# Altium integrated library National Semiconductor Interface.IntLib: 1433 symbols (part 3 of 51)
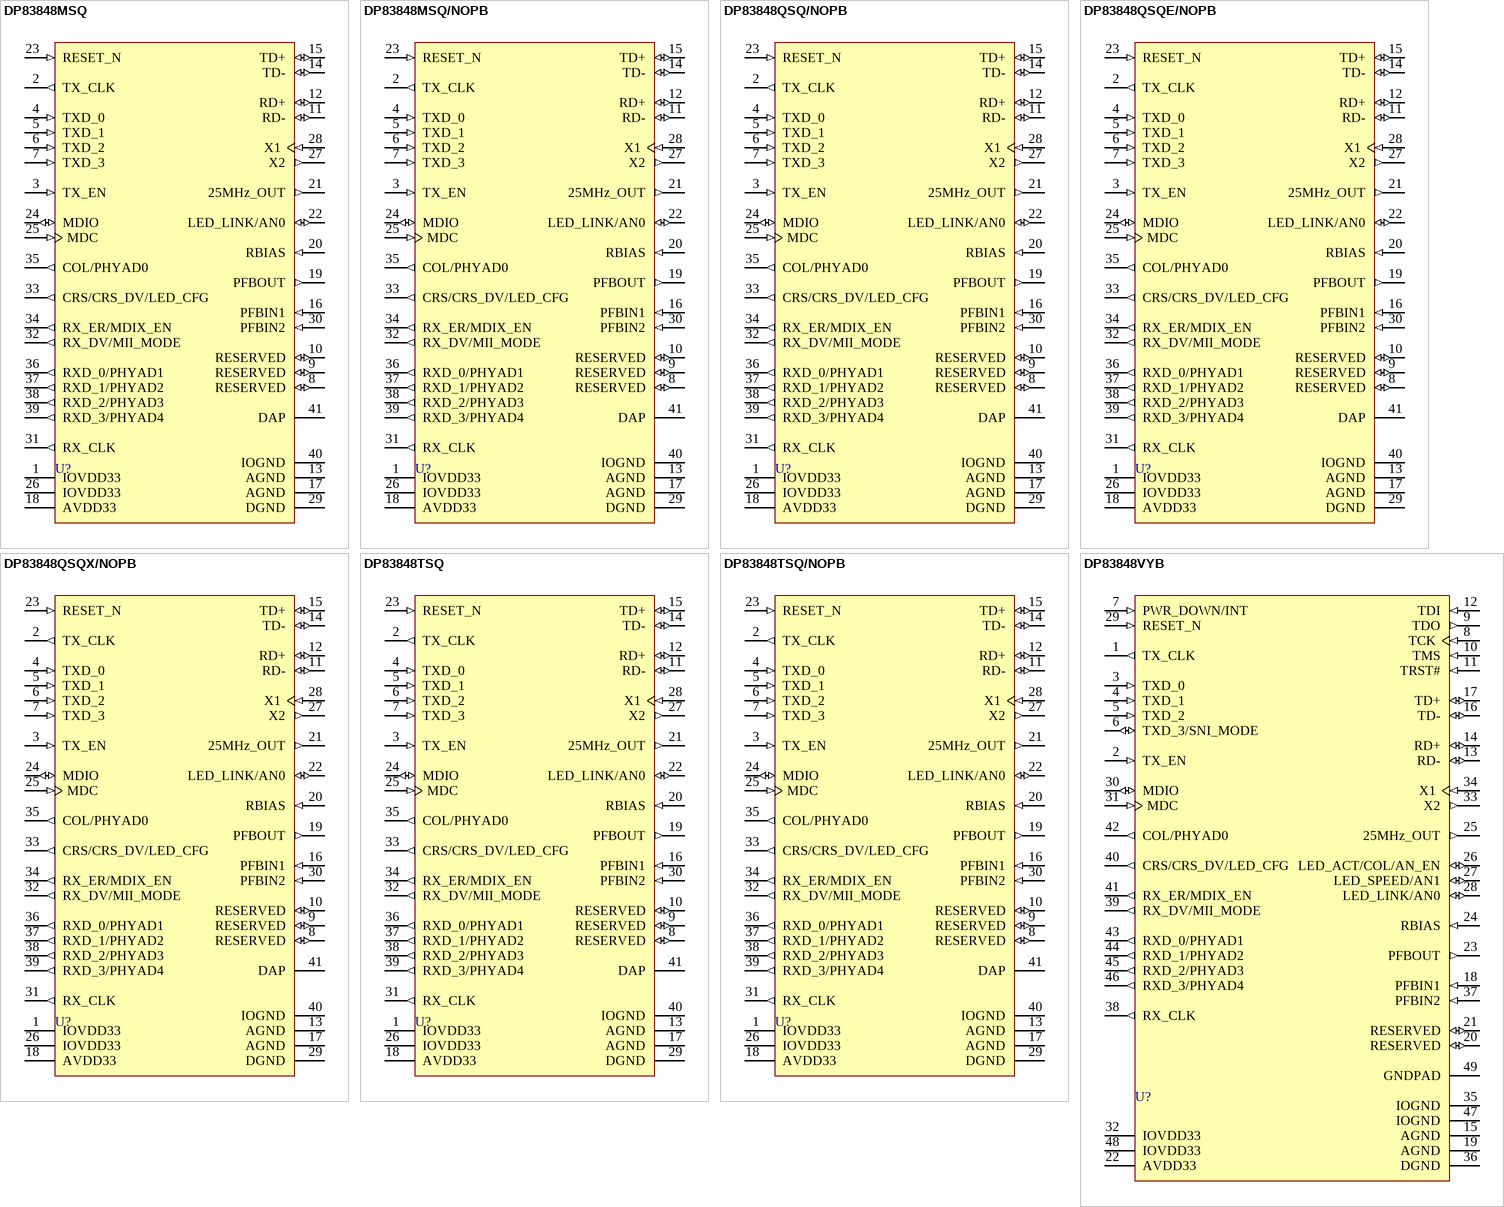
[diagram p126: symbols DP83848MSQ to DP83848VYB]

## DP83848QSQX/NOPB
designator U?
PHYTER Extended Temperature Single Port 10/100 Mb/s Ethernet Physical Layer Transceiver, -40°C to 105°C, 40-pin LLP; PartNumber: DP83848QSQX/NOPB; Manufacturer: National Semiconductor; PowerWise: N; CompType: Interface IC; High-Reliability: Y; DatasheetVersion: Sep-2011; PackageVersion: revB, Mar-2004; PackageReference: SQA40A; PackageDescription: LLP, Plastic, Quad, 6 x 6 x 0.8mm Body, 40 Lead, 0.5mm Pitch, No Pullback; RoHS: Y; PinCount: 40; ComponentLink1Description: Manufacturer URL; ComponentLink1URL: http://www.national.com/; ComponentLink2Description: DP83848Q Datasheet; ComponentLink2URL: http://www.national.com/ds/DP/DP83848Q.pdf; ComponentLink3Description: DP83848Q Web Page; ComponentLink3URL: http://www.national.com/pf/DP/DP83848Q.html; ComponentLink4Description: SQA40A Package Page; ComponentLink4URL: http://www.national.com/packaging/folders/sqa40a.html
footprint SQA40A (QFN, 40-Leads, Body 6x6mm, Pitch 0.5mm, Thermal Pad 4.7x4.7mm, NSC Recommended)
pins: 1 IOVDD33 (power), 2 TX_CLK (out), 3 TX_EN (in), 4 TXD_0 (in), 5 TXD_1 (in), 6 TXD_2 (in), 7 TXD_3 (in), 8 RESERVED (io), 9 RESERVED (io), 10 RESERVED (io), 11 RD- (io), 12 RD+ (io), 13 AGND (power), 14 TD- (io), 15 TD+ (io), 16 PFBIN1 (in), 17 AGND (power), 18 AVDD33 (power), 19 PFBOUT (out), 20 RBIAS (in), 21 25MHz_OUT (out), 22 LED_LINK/AN0 (io), 23 RESET_N (in), 24 MDIO (io), 25 MDC (in), 26 IOVDD33 (power), 27 X2 (out), 28 X1 (in), 29 DGND (power), 30 PFBIN2 (in), 31 RX_CLK (out), 32 RX_DV/MII_MODE (out), 33 CRS/CRS_DV/LED_CFG (out), 34 RX_ER/MDIX_EN (out), 35 COL/PHYAD0 (out), 36 RXD_0/PHYAD1 (out), 37 RXD_1/PHYAD2 (out), 38 RXD_2/PHYAD3 (out), 39 RXD_3/PHYAD4 (out), 40 IOGND (power), 41 DAP (power)

## DP83848TSQ
designator U?
PHYTER® Mini - Industrial Temperature Single 10/100 Ethernet Transceiver, 40-pin LLP; PartNumber: DP83848TSQ; Manufacturer: National Semiconductor; PackageTopMarking: NS*UZXYTT*83848TSQ; PowerWise: N; CompType: Interface IC; High-Reliability: Y; DatasheetVersion: May-2008; PackageVersion: revA, Mar-2004; PackageReference: SQA40B; PackageDescription: LLP, Quad, 6 x 6 x 0.8mm, 40 Lead, Small DAP, 0.5mm Pitch, No Pullback; RoHS: Y; PinCount: 40; ComponentLink1Description: Manufacturer URL; ComponentLink1URL: http://www.national.com/; ComponentLink2Description: DP83848T Datasheet; ComponentLink2URL: http://www.national.com/ds/DP/DP83848T.pdf; ComponentLink3Description: DP83848T Web Page; ComponentLink3URL: http://www.national.com/pf/DP/DP83848T.html; ComponentLink4Description: SQA40B Package Page; ComponentLink4URL: http://www.national.com/packaging/folders/sqa40b.html
footprint SQA40B (QFN, 40-Leads, Body 6x6mm, Pitch 0.5mm, Thermal Pad 4.4x4.4mm, NSC Recommended)
pins: 1 IOVDD33 (power), 2 TX_CLK (out), 3 TX_EN (in), 4 TXD_0 (in), 5 TXD_1 (in), 6 TXD_2 (in), 7 TXD_3 (in), 8 RESERVED (io), 9 RESERVED (io), 10 RESERVED (io), 11 RD- (io), 12 RD+ (io), 13 AGND (power), 14 TD- (io), 15 TD+ (io), 16 PFBIN1 (in), 17 AGND (power), 18 AVDD33 (power), 19 PFBOUT (out), 20 RBIAS (in), 21 25MHz_OUT (out), 22 LED_LINK/AN0 (io), 23 RESET_N (in), 24 MDIO (io), 25 MDC (in), 26 IOVDD33 (power), 27 X2 (out), 28 X1 (in), 29 DGND (power), 30 PFBIN2 (in), 31 RX_CLK (out), 32 RX_DV/MII_MODE (out), 33 CRS/CRS_DV/LED_CFG (out), 34 RX_ER/MDIX_EN (out), 35 COL/PHYAD0 (out), 36 RXD_0/PHYAD1 (out), 37 RXD_1/PHYAD2 (out), 38 RXD_2/PHYAD3 (out), 39 RXD_3/PHYAD4 (out), 40 IOGND (power), 41 DAP

## DP83848TSQ/NOPB
designator U?
PHYTER® Mini - Industrial Temperature Single 10/100 Ethernet Transceiver, 40-pin LLP, Pb-Free, 250 Reel; PartNumber: DP83848TSQ/NOPB; Manufacturer: National Semiconductor; PackageTopMarking: NS*UZXYTTE#*83848TSQ; PowerWise: N; CompType: Interface IC; High-Reliability: Y; DatasheetVersion: May-2008; PackageVersion: revA, Mar-2004; PackageReference: SQA40B; PackageDescription: LLP, Quad, 6 x 6 x 0.8mm, 40 Lead, Small DAP, 0.5mm Pitch, No Pullback; RoHS: Y; PinCount: 40; ComponentLink1Description: Manufacturer URL; ComponentLink1URL: http://www.national.com/; ComponentLink2Description: DP83848T Datasheet; ComponentLink2URL: http://www.national.com/ds/DP/DP83848T.pdf; ComponentLink3Description: DP83848T Web Page; ComponentLink3URL: http://www.national.com/pf/DP/DP83848T.html; ComponentLink4Description: SQA40A Package Page; ComponentLink4URL: http://www.national.com/packaging/folders/sqa40a.html
footprint SQA40B (QFN, 40-Leads, Body 6x6mm, Pitch 0.5mm, Thermal Pad 4.4x4.4mm, NSC Recommended)
pins: 1 IOVDD33 (power), 2 TX_CLK (out), 3 TX_EN (in), 4 TXD_0 (in), 5 TXD_1 (in), 6 TXD_2 (in), 7 TXD_3 (in), 8 RESERVED (io), 9 RESERVED (io), 10 RESERVED (io), 11 RD- (io), 12 RD+ (io), 13 AGND (power), 14 TD- (io), 15 TD+ (io), 16 PFBIN1 (in), 17 AGND (power), 18 AVDD33 (power), 19 PFBOUT (out), 20 RBIAS (in), 21 25MHz_OUT (out), 22 LED_LINK/AN0 (io), 23 RESET_N (in), 24 MDIO (io), 25 MDC (in), 26 IOVDD33 (power), 27 X2 (out), 28 X1 (in), 29 DGND (power), 30 PFBIN2 (in), 31 RX_CLK (out), 32 RX_DV/MII_MODE (out), 33 CRS/CRS_DV/LED_CFG (out), 34 RX_ER/MDIX_EN (out), 35 COL/PHYAD0 (out), 36 RXD_0/PHYAD1 (out), 37 RXD_1/PHYAD2 (out), 38 RXD_2/PHYAD3 (out), 39 RXD_3/PHYAD4 (out), 40 IOGND (power), 41 DAP

## DP83848VYB
designator U?
PHYTER® Extended Temperature Single Port 10/100 Mb/s Ethernet Physical Layer Transceiver, 48-pin LQFP-EP; PartNumber: DP83848VYB; Manufacturer: National Semiconductor; PackageTopMarking: NSUZXYTT*DP83848*VYB; PowerWise: N; CompType: Interface IC; High-Reliability: Y; DatasheetVersion: May-2008; PackageVersion: revA, May-2005; PackageReference: VXH48A; PackageDescription: LQFP, 7 x 7 x 1.4mm, 48 Lead, 0.5mm Pitch, Exposed Pad, 2.2 x 2.2mm; RoHS: Y; PinCount: 48; Code_JEDEC: MS-026-ABC; ComponentLink1Description: Manufacturer URL; ComponentLink1URL: http://www.national.com/; ComponentLink2Description: DP83848VYB Datasheet; ComponentLink2URL: http://www.national.com/ds/DP/DP83848VYB.pdf; ComponentLink3Description: DP83848VYB Web Page; ComponentLink3URL: http://www.national.com/pf/DP/DP83848VYB.html; ComponentLink4Description: VXH48A Package Page; ComponentLink4URL: http://www.national.com/packaging/folders/vxh48a.html
footprint VXH48A_N (Thin QFP, 48-Leads, Body 7x7mm, Pitch 0.5mm, Exposed Pad, IPC Medium Density)
footprint VXH48A_L (Thin QFP, 48-Leads, Body 7x7mm, Pitch 0.5mm, Exposed Pad, IPC High Density)
footprint VXH48A_M (Thin QFP, 48-Leads, Body 7x7mm, Pitch 0.5mm, Exposed Pad, IPC Low Density)
pins: 1 TX_CLK (out), 2 TX_EN (in), 3 TXD_0 (in), 4 TXD_1 (in), 5 TXD_2 (in), 6 TXD_3/SNI_MODE (io), 7 PWR_DOWN/INT (in), 8 TCK (in), 9 TDO (out), 10 TMS (in), 11 TRST# (in), 12 TDI (in), 13 RD- (io), 14 RD+ (io), 15 AGND (power), 16 TD- (io), 17 TD+ (io), 18 PFBIN1 (in), 19 AGND (power), 20 RESERVED (io), 21 RESERVED (io), 22 AVDD33 (power), 23 PFBOUT (out), 24 RBIAS (in), 25 25MHz_OUT (out), 26 LED_ACT/COL/AN_EN (io), 27 LED_SPEED/AN1 (io), 28 LED_LINK/AN0 (io), 29 RESET_N (in), 30 MDIO (io), 31 MDC (in), 32 IOVDD33 (power), 33 X2 (out), 34 X1 (in), 35 IOGND (power), 36 DGND (power), 37 PFBIN2 (in), 38 RX_CLK (out), 39 RX_DV/MII_MODE (out), 40 CRS/CRS_DV/LED_CFG (out), 41 RX_ER/MDIX_EN (out), 42 COL/PHYAD0 (out), 43 RXD_0/PHYAD1 (out), 44 RXD_1/PHYAD2 (out), 45 RXD_2/PHYAD3 (out), 46 RXD_3/PHYAD4 (out), 47 IOGND (power), 48 IOVDD33 (power), 49 GNDPAD (power)

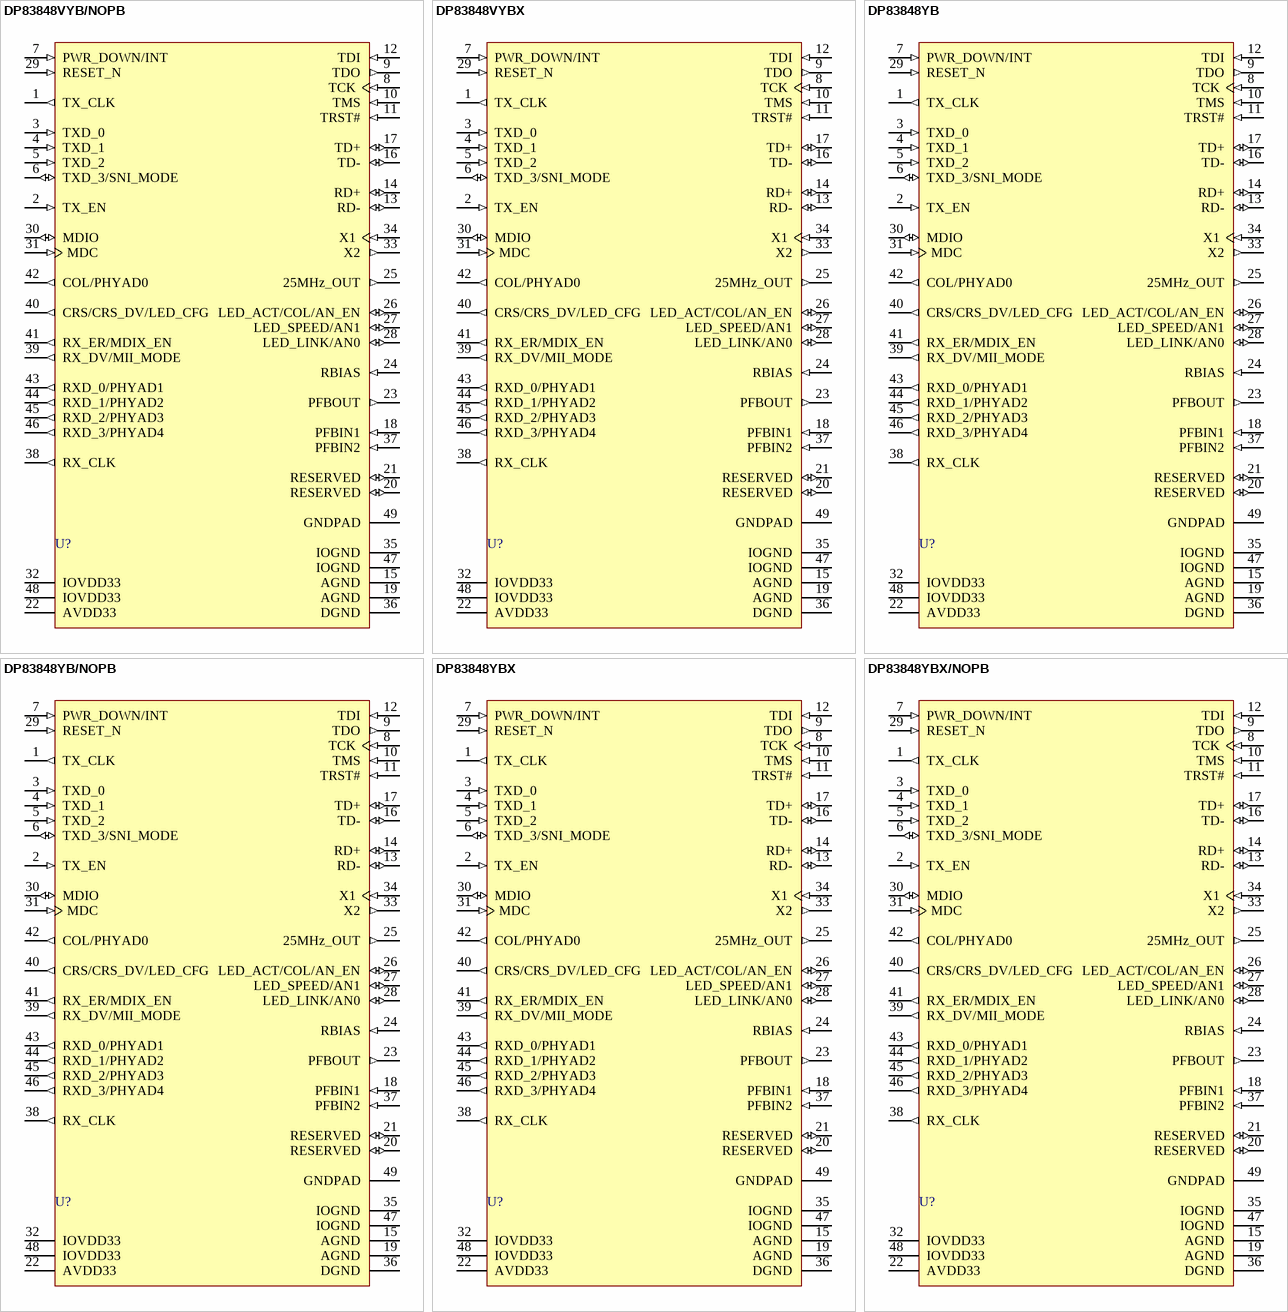
[diagram p8: symbols DP83848VYB/NOPB to DP83848YBX/NOPB]

## DP83848VYB/NOPB
designator U?
PHYTER® Extended Temperature Single Port 10/100 Mb/s Ethernet Physical Layer Transceiver, 48-pin LQFP-EP, Pb-Free, Tray 250; PartNumber: DP83848VYB/NOPB; Manufacturer: National Semiconductor; PackageTopMarking: NSUZXYTT*DP83848*VYB; PowerWise: N; CompType: Interface IC; High-Reliability: Y; DatasheetVersion: May-2008; PackageVersion: revA, May-2005; PackageReference: VXH48A; PackageDescription: LQFP, 7 x 7 x 1.4mm, 48 Lead, 0.5mm Pitch, Exposed Pad, 2.2 x 2.2mm; RoHS: Y; PinCount: 48; Code_JEDEC: MS-026-ABC; ComponentLink1Description: Manufacturer URL; ComponentLink1URL: http://www.national.com/; ComponentLink2Description: DP83848VYB Datasheet; ComponentLink2URL: http://www.national.com/ds/DP/DP83848VYB.pdf; ComponentLink3Description: DP83848VYB Web Page; ComponentLink3URL: http://www.national.com/pf/DP/DP83848VYB.html; ComponentLink4Description: VXH48A Package Page; ComponentLink4URL: http://www.national.com/packaging/folders/vxh48a.html
footprint VXH48A_N (Thin QFP, 48-Leads, Body 7x7mm, Pitch 0.5mm, Exposed Pad, IPC Medium Density)
footprint VXH48A_L (Thin QFP, 48-Leads, Body 7x7mm, Pitch 0.5mm, Exposed Pad, IPC High Density)
footprint VXH48A_M (Thin QFP, 48-Leads, Body 7x7mm, Pitch 0.5mm, Exposed Pad, IPC Low Density)
pins: 1 TX_CLK (out), 2 TX_EN (in), 3 TXD_0 (in), 4 TXD_1 (in), 5 TXD_2 (in), 6 TXD_3/SNI_MODE (io), 7 PWR_DOWN/INT (in), 8 TCK (in), 9 TDO (out), 10 TMS (in), 11 TRST# (in), 12 TDI (in), 13 RD- (io), 14 RD+ (io), 15 AGND (power), 16 TD- (io), 17 TD+ (io), 18 PFBIN1 (in), 19 AGND (power), 20 RESERVED (io), 21 RESERVED (io), 22 AVDD33 (power), 23 PFBOUT (out), 24 RBIAS (in), 25 25MHz_OUT (out), 26 LED_ACT/COL/AN_EN (io), 27 LED_SPEED/AN1 (io), 28 LED_LINK/AN0 (io), 29 RESET_N (in), 30 MDIO (io), 31 MDC (in), 32 IOVDD33 (power), 33 X2 (out), 34 X1 (in), 35 IOGND (power), 36 DGND (power), 37 PFBIN2 (in), 38 RX_CLK (out), 39 RX_DV/MII_MODE (out), 40 CRS/CRS_DV/LED_CFG (out), 41 RX_ER/MDIX_EN (out), 42 COL/PHYAD0 (out), 43 RXD_0/PHYAD1 (out), 44 RXD_1/PHYAD2 (out), 45 RXD_2/PHYAD3 (out), 46 RXD_3/PHYAD4 (out), 47 IOGND (power), 48 IOVDD33 (power), 49 GNDPAD (power)

## DP83848VYBX
designator U?
PHYTER® Extended Temperature Single Port 10/100 Mb/s Ethernet Physical Layer Transceiver, 48-pin LQFP-EP, 1000 Reel; PartNumber: DP83848VYBX; Manufacturer: National Semiconductor; PowerWise: N; CompType: Interface IC; High-Reliability: Y; DatasheetVersion: May-2008; PackageVersion: revA, May-2005; PackageReference: VXH48A; PackageDescription: LQFP, 7 x 7 x 1.4mm, 48 Lead, 0.5mm Pitch, Exposed Pad, 2.2 x 2.2mm; PinCount: 48; Code_JEDEC: MS-026-ABC; ComponentLink1Description: Manufacturer URL; ComponentLink1URL: http://www.national.com/; ComponentLink2Description: DP83848VYB Datasheet; ComponentLink2URL: http://www.national.com/ds/DP/DP83848VYB.pdf; ComponentLink3Description: DP83848VYB Web Page; ComponentLink3URL: http://www.national.com/pf/DP/DP83848VYB.html; ComponentLink4Description: VXH48A Package Page; ComponentLink4URL: http://www.national.com/packaging/folders/vxh48a.html
footprint VXH48A_N (Thin QFP, 48-Leads, Body 7x7mm, Pitch 0.5mm, Exposed Pad, IPC Medium Density)
footprint VXH48A_L (Thin QFP, 48-Leads, Body 7x7mm, Pitch 0.5mm, Exposed Pad, IPC High Density)
footprint VXH48A_M (Thin QFP, 48-Leads, Body 7x7mm, Pitch 0.5mm, Exposed Pad, IPC Low Density)
pins: 1 TX_CLK (out), 2 TX_EN (in), 3 TXD_0 (in), 4 TXD_1 (in), 5 TXD_2 (in), 6 TXD_3/SNI_MODE (io), 7 PWR_DOWN/INT (in), 8 TCK (in), 9 TDO (out), 10 TMS (in), 11 TRST# (in), 12 TDI (in), 13 RD- (io), 14 RD+ (io), 15 AGND (power), 16 TD- (io), 17 TD+ (io), 18 PFBIN1 (in), 19 AGND (power), 20 RESERVED (io), 21 RESERVED (io), 22 AVDD33 (power), 23 PFBOUT (out), 24 RBIAS (in), 25 25MHz_OUT (out), 26 LED_ACT/COL/AN_EN (io), 27 LED_SPEED/AN1 (io), 28 LED_LINK/AN0 (io), 29 RESET_N (in), 30 MDIO (io), 31 MDC (in), 32 IOVDD33 (power), 33 X2 (out), 34 X1 (in), 35 IOGND (power), 36 DGND (power), 37 PFBIN2 (in), 38 RX_CLK (out), 39 RX_DV/MII_MODE (out), 40 CRS/CRS_DV/LED_CFG (out), 41 RX_ER/MDIX_EN (out), 42 COL/PHYAD0 (out), 43 RXD_0/PHYAD1 (out), 44 RXD_1/PHYAD2 (out), 45 RXD_2/PHYAD3 (out), 46 RXD_3/PHYAD4 (out), 47 IOGND (power), 48 IOVDD33 (power), 49 GNDPAD (power)

## DP83848YB
designator U?
PHYTER® Extreme Temperature Single Port 10/100 Mb/s Ethernet Physical Layer Transceiver, 48-pin LQFP-EP, 250 Tray; PartNumber: DP83848YB; Manufacturer: National Semiconductor; PackageTopMarking: NSUZXYTT*DP83848YB; PowerWise: N; CompType: Interface IC; High-Reliability: Y; DatasheetVersion: May-2008; PackageVersion: revA, May-2005; PackageReference: VXH48A; PackageDescription: LQFP, 7 x 7 x 1.4mm, 48 Lead, 0.5mm Pitch, Exposed Pad, 2.2 x 2.2mm; RoHS: N; PinCount: 48; Code_JEDEC: MS-026-ABC; ComponentLink1Description: Manufacturer URL; ComponentLink1URL: http://www.national.com/; ComponentLink2Description: DP83848YB Datasheet; ComponentLink2URL: http://www.national.com/ds/DP/DP83848YB.pdf; ComponentLink3Description: DP83848YB Web Page; ComponentLink3URL: http://www.national.com/pf/DP/DP83848YB.html; ComponentLink4Description: VXH48A Package Page; ComponentLink4URL: http://www.national.com/packaging/folders/vxh48a.html
footprint VXH48A_N (Thin QFP, 48-Leads, Body 7x7mm, Pitch 0.5mm, Exposed Pad, IPC Medium Density)
footprint VXH48A_L (Thin QFP, 48-Leads, Body 7x7mm, Pitch 0.5mm, Exposed Pad, IPC High Density)
footprint VXH48A_M (Thin QFP, 48-Leads, Body 7x7mm, Pitch 0.5mm, Exposed Pad, IPC Low Density)
pins: 1 TX_CLK (out), 2 TX_EN (in), 3 TXD_0 (in), 4 TXD_1 (in), 5 TXD_2 (in), 6 TXD_3/SNI_MODE (io), 7 PWR_DOWN/INT (in), 8 TCK (in), 9 TDO (out), 10 TMS (in), 11 TRST# (in), 12 TDI (in), 13 RD- (io), 14 RD+ (io), 15 AGND (power), 16 TD- (io), 17 TD+ (io), 18 PFBIN1 (in), 19 AGND (power), 20 RESERVED (io), 21 RESERVED (io), 22 AVDD33 (power), 23 PFBOUT (out), 24 RBIAS (in), 25 25MHz_OUT (out), 26 LED_ACT/COL/AN_EN (io), 27 LED_SPEED/AN1 (io), 28 LED_LINK/AN0 (io), 29 RESET_N (in), 30 MDIO (io), 31 MDC (in), 32 IOVDD33 (power), 33 X2 (out), 34 X1 (in), 35 IOGND (power), 36 DGND (power), 37 PFBIN2 (in), 38 RX_CLK (out), 39 RX_DV/MII_MODE (out), 40 CRS/CRS_DV/LED_CFG (out), 41 RX_ER/MDIX_EN (out), 42 COL/PHYAD0 (out), 43 RXD_0/PHYAD1 (out), 44 RXD_1/PHYAD2 (out), 45 RXD_2/PHYAD3 (out), 46 RXD_3/PHYAD4 (out), 47 IOGND (power), 48 IOVDD33 (power), 49 GNDPAD (power)

## DP83848YB/NOPB
designator U?
PHYTER® Extreme Temperature Single Port 10/100 Mb/s Ethernet Physical Layer Transceiver, 48-pin LQFP-EP, Pb-Free, 250 Tray; PartNumber: DP83848YB/NOPB; Manufacturer: National Semiconductor; PackageTopMarking: NSUZXYTT*DP83848YB; PowerWise: N; CompType: Interface IC; High-Reliability: Y; DatasheetVersion: May-2008; PackageVersion: revA, May-2005; PackageReference: VXH48A; PackageDescription: LQFP, 7 x 7 x 1.4mm, 48 Lead, 0.5mm Pitch, Exposed Pad, 2.2 x 2.2mm; RoHS: Y; PinCount: 48; Code_JEDEC: MS-026-ABC; ComponentLink1Description: Manufacturer URL; ComponentLink1URL: http://www.national.com/; ComponentLink2Description: DP83848YB Datasheet; ComponentLink2URL: http://www.national.com/ds/DP/DP83848YB.pdf; ComponentLink3Description: DP83848YB Web Page; ComponentLink3URL: http://www.national.com/pf/DP/DP83848YB.html; ComponentLink4Description: VXH48A Package Page; ComponentLink4URL: http://www.national.com/packaging/folders/vxh48a.html
footprint VXH48A_N (Thin QFP, 48-Leads, Body 7x7mm, Pitch 0.5mm, Exposed Pad, IPC Medium Density)
footprint VXH48A_L (Thin QFP, 48-Leads, Body 7x7mm, Pitch 0.5mm, Exposed Pad, IPC High Density)
footprint VXH48A_M (Thin QFP, 48-Leads, Body 7x7mm, Pitch 0.5mm, Exposed Pad, IPC Low Density)
pins: 1 TX_CLK (out), 2 TX_EN (in), 3 TXD_0 (in), 4 TXD_1 (in), 5 TXD_2 (in), 6 TXD_3/SNI_MODE (io), 7 PWR_DOWN/INT (in), 8 TCK (in), 9 TDO (out), 10 TMS (in), 11 TRST# (in), 12 TDI (in), 13 RD- (io), 14 RD+ (io), 15 AGND (power), 16 TD- (io), 17 TD+ (io), 18 PFBIN1 (in), 19 AGND (power), 20 RESERVED (io), 21 RESERVED (io), 22 AVDD33 (power), 23 PFBOUT (out), 24 RBIAS (in), 25 25MHz_OUT (out), 26 LED_ACT/COL/AN_EN (io), 27 LED_SPEED/AN1 (io), 28 LED_LINK/AN0 (io), 29 RESET_N (in), 30 MDIO (io), 31 MDC (in), 32 IOVDD33 (power), 33 X2 (out), 34 X1 (in), 35 IOGND (power), 36 DGND (power), 37 PFBIN2 (in), 38 RX_CLK (out), 39 RX_DV/MII_MODE (out), 40 CRS/CRS_DV/LED_CFG (out), 41 RX_ER/MDIX_EN (out), 42 COL/PHYAD0 (out), 43 RXD_0/PHYAD1 (out), 44 RXD_1/PHYAD2 (out), 45 RXD_2/PHYAD3 (out), 46 RXD_3/PHYAD4 (out), 47 IOGND (power), 48 IOVDD33 (power), 49 GNDPAD (power)

## DP83848YBX
designator U?
PHYTER® Extreme Temperature Single Port 10/100 Mb/s Ethernet Physical Layer Transceiver, 48-pin LQFP-EP, 1000 Reel; PartNumber: DP83848YBX; Manufacturer: National Semiconductor; PackageTopMarking: NSUZXYTT*DP83848YB; PowerWise: N; CompType: Interface IC; High-Reliability: Y; DatasheetVersion: May-2008; PackageVersion: revA, May-2005; PackageReference: VXH48A; PackageDescription: LQFP, 7 x 7 x 1.4mm, 48 Lead, 0.5mm Pitch, Exposed Pad, 2.2 x 2.2mm; RoHS: N; PinCount: 48; Code_JEDEC: MS-026-ABC; ComponentLink1Description: Manufacturer URL; ComponentLink1URL: http://www.national.com/; ComponentLink2Description: DP83848YB Datasheet; ComponentLink2URL: http://www.national.com/ds/DP/DP83848YB.pdf; ComponentLink3Description: DP83848YB Web Page; ComponentLink3URL: http://www.national.com/pf/DP/DP83848YB.html; ComponentLink4Description: VXH48A Package Page; ComponentLink4URL: http://www.national.com/packaging/folders/vxh48a.html
footprint VXH48A_N (Thin QFP, 48-Leads, Body 7x7mm, Pitch 0.5mm, Exposed Pad, IPC Medium Density)
footprint VXH48A_L (Thin QFP, 48-Leads, Body 7x7mm, Pitch 0.5mm, Exposed Pad, IPC High Density)
footprint VXH48A_M (Thin QFP, 48-Leads, Body 7x7mm, Pitch 0.5mm, Exposed Pad, IPC Low Density)
pins: 1 TX_CLK (out), 2 TX_EN (in), 3 TXD_0 (in), 4 TXD_1 (in), 5 TXD_2 (in), 6 TXD_3/SNI_MODE (io), 7 PWR_DOWN/INT (in), 8 TCK (in), 9 TDO (out), 10 TMS (in), 11 TRST# (in), 12 TDI (in), 13 RD- (io), 14 RD+ (io), 15 AGND (power), 16 TD- (io), 17 TD+ (io), 18 PFBIN1 (in), 19 AGND (power), 20 RESERVED (io), 21 RESERVED (io), 22 AVDD33 (power), 23 PFBOUT (out), 24 RBIAS (in), 25 25MHz_OUT (out), 26 LED_ACT/COL/AN_EN (io), 27 LED_SPEED/AN1 (io), 28 LED_LINK/AN0 (io), 29 RESET_N (in), 30 MDIO (io), 31 MDC (in), 32 IOVDD33 (power), 33 X2 (out), 34 X1 (in), 35 IOGND (power), 36 DGND (power), 37 PFBIN2 (in), 38 RX_CLK (out), 39 RX_DV/MII_MODE (out), 40 CRS/CRS_DV/LED_CFG (out), 41 RX_ER/MDIX_EN (out), 42 COL/PHYAD0 (out), 43 RXD_0/PHYAD1 (out), 44 RXD_1/PHYAD2 (out), 45 RXD_2/PHYAD3 (out), 46 RXD_3/PHYAD4 (out), 47 IOGND (power), 48 IOVDD33 (power), 49 GNDPAD (power)

## DP83848YBX/NOPB
designator U?
PHYTER® Extreme Temperature Single Port 10/100 Mb/s Ethernet Physical Layer Transceiver, 48-pin LQFP-EP, Pb-Free, 1000 Reel; PartNumber: DP83848YBX/NOPB; Manufacturer: National Semiconductor; PowerWise: N; CompType: Interface IC; High-Reliability: Y; DatasheetVersion: May-2008; PackageVersion: revA, May-2005; PackageReference: VXH48A; PackageDescription: LQFP, 7 x 7 x 1.4mm, 48 Lead, 0.5mm Pitch, Exposed Pad, 2.2 x 2.2mm; RoHS: Y; PinCount: 48; Code_JEDEC: MS-026-ABC; ComponentLink1Description: Manufacturer URL; ComponentLink1URL: http://www.national.com/; ComponentLink2Description: DP83848YB Datasheet; ComponentLink2URL: http://www.national.com/ds/DP/DP83848YB.pdf; ComponentLink3Description: DP83848YB Web Page; ComponentLink3URL: http://www.national.com/pf/DP/DP83848YB.html; ComponentLink4Description: VXH48A Package Page; ComponentLink4URL: http://www.national.com/packaging/folders/vxh48a.html
footprint VXH48A_N (Thin QFP, 48-Leads, Body 7x7mm, Pitch 0.5mm, Exposed Pad, IPC Medium Density)
footprint VXH48A_L (Thin QFP, 48-Leads, Body 7x7mm, Pitch 0.5mm, Exposed Pad, IPC High Density)
footprint VXH48A_M (Thin QFP, 48-Leads, Body 7x7mm, Pitch 0.5mm, Exposed Pad, IPC Low Density)
pins: 1 TX_CLK (out), 2 TX_EN (in), 3 TXD_0 (in), 4 TXD_1 (in), 5 TXD_2 (in), 6 TXD_3/SNI_MODE (io), 7 PWR_DOWN/INT (in), 8 TCK (in), 9 TDO (out), 10 TMS (in), 11 TRST# (in), 12 TDI (in), 13 RD- (io), 14 RD+ (io), 15 AGND (power), 16 TD- (io), 17 TD+ (io), 18 PFBIN1 (in), 19 AGND (power), 20 RESERVED (io), 21 RESERVED (io), 22 AVDD33 (power), 23 PFBOUT (out), 24 RBIAS (in), 25 25MHz_OUT (out), 26 LED_ACT/COL/AN_EN (io), 27 LED_SPEED/AN1 (io), 28 LED_LINK/AN0 (io), 29 RESET_N (in), 30 MDIO (io), 31 MDC (in), 32 IOVDD33 (power), 33 X2 (out), 34 X1 (in), 35 IOGND (power), 36 DGND (power), 37 PFBIN2 (in), 38 RX_CLK (out), 39 RX_DV/MII_MODE (out), 40 CRS/CRS_DV/LED_CFG (out), 41 RX_ER/MDIX_EN (out), 42 COL/PHYAD0 (out), 43 RXD_0/PHYAD1 (out), 44 RXD_1/PHYAD2 (out), 45 RXD_2/PHYAD3 (out), 46 RXD_3/PHYAD4 (out), 47 IOGND (power), 48 IOVDD33 (power), 49 GNDPAD (power)

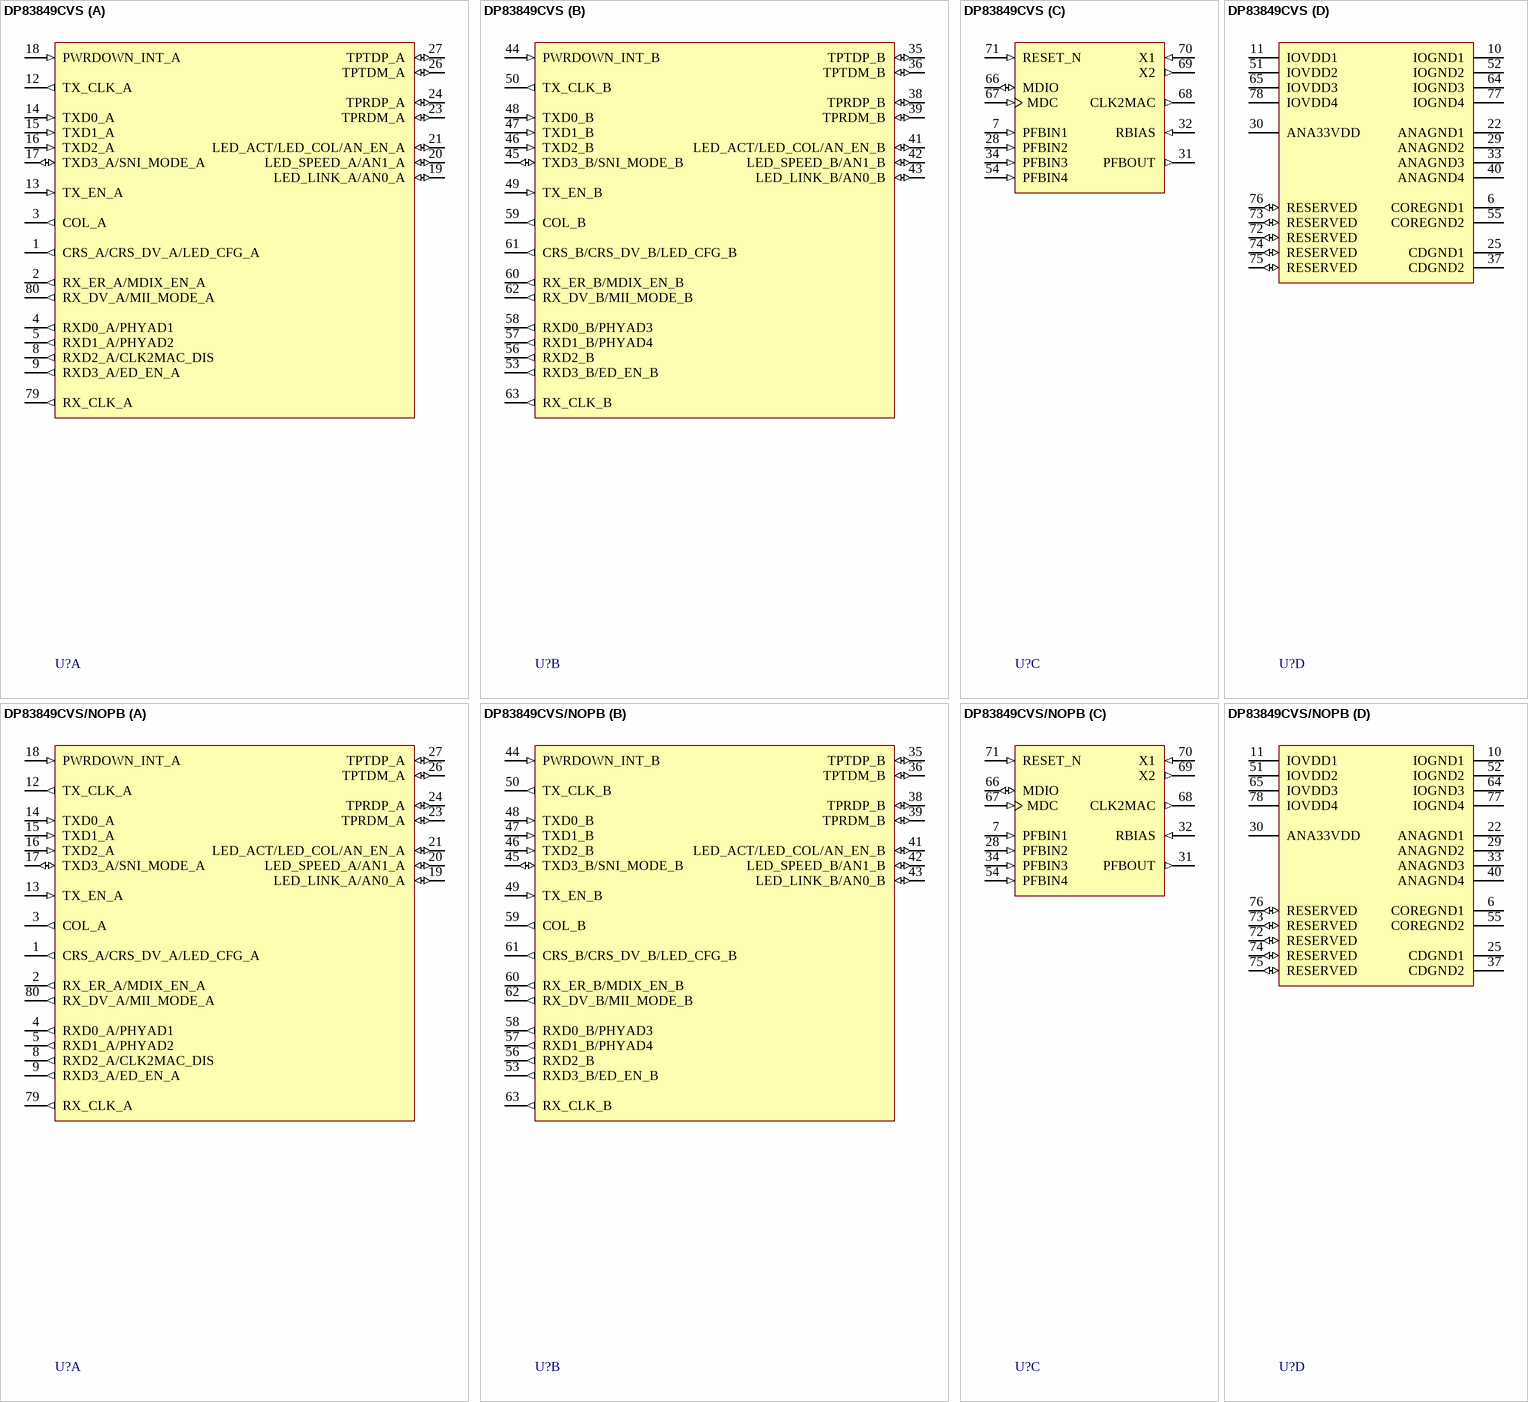
[diagram p9: symbols DP83849CVS to DP83849CVS/NOPB]

## DP83849CVS
designator U?
PHYTER® DUAL Commercial Temperature Dual Port 10/100 Mb/s Ethernet Physical Layer Transceiver, 80-pin TQFP; PartNumber: DP83849CVS; Manufacturer: National Semiconductor; PackageTopMarking: NSUZXYTT*DP83849CVS; PowerWise: N; CompType: Interface IC; High-Reliability: Y; DatasheetVersion: May-2008; PackageVersion: revB, Dec-1999; PackageReference: VHB80A; PackageDescription: LQFP, Jedec, Metric, 12 x 12 x 1.0mm, 80 Lead; RoHS: N; PinCount: 80; Code_JEDEC: MS-026-ADD; ComponentLink1Description: Manufacturer URL; ComponentLink1URL: http://www.national.com/; ComponentLink2Description: DP83849C Datasheet; ComponentLink2URL: http://www.national.com/ds/DP/DP83849C.pdf; ComponentLink3Description: DP83849C Web Page; ComponentLink3URL: http://www.national.com/pf/DP/DP83849C.html; ComponentLink4Description: VHB80A Package Page; ComponentLink4URL: http://www.national.com/packaging/folders/vhb80a.html
footprint VHB80A_N (Thin QFP, 80-Leads, Body 12x12mm, Pitch 0.5mm, IPC Medium Density)
footprint VHB80A_L (Thin QFP, 80-Leads, Body 12x12mm, Pitch 0.5mm, IPC High Density)
footprint VHB80A_M (Thin QFP, 80-Leads, Body 12x12mm, Pitch 0.5mm, IPC Low Density)
part A pins: 1 CRS_A/CRS_DV_A/LED_CFG_A (out), 2 RX_ER_A/MDIX_EN_A (out), 3 COL_A (out), 4 RXD0_A/PHYAD1 (out), 5 RXD1_A/PHYAD2 (out), 8 RXD2_A/CLK2MAC_DIS (out), 9 RXD3_A/ED_EN_A (out), 12 TX_CLK_A (out), 13 TX_EN_A (in), 14 TXD0_A (in), 15 TXD1_A (in), 16 TXD2_A (in), 17 TXD3_A/SNI_MODE_A (io), 18 PWRDOWN_INT_A (in), 19 LED_LINK_A/AN0_A (io), 20 LED_SPEED_A/AN1_A (io), 21 LED_ACT/LED_COL/AN_EN_A (io), 23 TPRDM_A (io), 24 TPRDP_A (io), 26 TPTDM_A (io), 27 TPTDP_A (io), 79 RX_CLK_A (out), 80 RX_DV_A/MII_MODE_A (out)
part B pins: 35 TPTDP_B (io), 36 TPTDM_B (io), 38 TPRDP_B (io), 39 TPRDM_B (io), 41 LED_ACT/LED_COL/AN_EN_B (io), 42 LED_SPEED_B/AN1_B (io), 43 LED_LINK_B/AN0_B (io), 44 PWRDOWN_INT_B (in), 45 TXD3_B/SNI_MODE_B (io), 46 TXD2_B (in), 47 TXD1_B (in), 48 TXD0_B (in), 49 TX_EN_B (in), 50 TX_CLK_B (out), 53 RXD3_B/ED_EN_B (out), 56 RXD2_B (out), 57 RXD1_B/PHYAD4 (out), 58 RXD0_B/PHYAD3 (out), 59 COL_B (out), 60 RX_ER_B/MDIX_EN_B (out), 61 CRS_B/CRS_DV_B/LED_CFG_B (out), 62 RX_DV_B/MII_MODE_B (out), 63 RX_CLK_B (out)
part C pins: 7 PFBIN1 (in), 28 PFBIN2 (in), 31 PFBOUT (out), 32 RBIAS (in), 34 PFBIN3 (in), 54 PFBIN4 (in), 66 MDIO (io), 67 MDC (in), 68 CLK2MAC (out), 69 X2 (out), 70 X1 (in), 71 RESET_N (in)
part D pins: 6 COREGND1 (power), 10 IOGND1 (power), 11 IOVDD1 (power), 22 ANAGND1 (power), 25 CDGND1 (power), 29 ANAGND2 (power), 30 ANA33VDD (power), 33 ANAGND3 (power), 37 CDGND2 (power), 40 ANAGND4 (power), 51 IOVDD2 (power), 52 IOGND2 (power), 55 COREGND2 (power), 64 IOGND3 (power), 65 IOVDD3 (power), 72 RESERVED (io), 73 RESERVED (io), 74 RESERVED (io), 75 RESERVED (io), 76 RESERVED (io), 77 IOGND4 (power), 78 IOVDD4 (power)

## DP83849CVS/NOPB
designator U?
PHYTER® DUAL Commercial Temperature Dual Port 10/100 Mb/s Ethernet Physical Layer Transceiver, 80-pin TQFP, Pb-Free; PartNumber: DP83849CVS/NOPB; Manufacturer: National Semiconductor; PackageTopMarking: NSUZXYTTE#*DP83849CVS; PowerWise: N; CompType: Interface IC; High-Reliability: Y; DatasheetVersion: May-2008; PackageVersion: revB, Dec-1999; PackageReference: VHB80A; PackageDescription: LQFP, Jedec, Metric, 12 x 12 x 1.0mm, 80 Lead; RoHS: Y; PinCount: 80; Code_JEDEC: MS-026-ADD; ComponentLink1Description: Manufacturer URL; ComponentLink1URL: http://www.national.com/; ComponentLink2Description: DP83849C Datasheet; ComponentLink2URL: http://www.national.com/ds/DP/DP83849C.pdf; ComponentLink3Description: DP83849C Web Page; ComponentLink3URL: http://www.national.com/pf/DP/DP83849C.html; ComponentLink4Description: VHB80A Package Page; ComponentLink4URL: http://www.national.com/packaging/folders/vhb80a.html
footprint VHB80A_N (Thin QFP, 80-Leads, Body 12x12mm, Pitch 0.5mm, IPC Medium Density)
footprint VHB80A_L (Thin QFP, 80-Leads, Body 12x12mm, Pitch 0.5mm, IPC High Density)
footprint VHB80A_M (Thin QFP, 80-Leads, Body 12x12mm, Pitch 0.5mm, IPC Low Density)
part A pins: 1 CRS_A/CRS_DV_A/LED_CFG_A (out), 2 RX_ER_A/MDIX_EN_A (out), 3 COL_A (out), 4 RXD0_A/PHYAD1 (out), 5 RXD1_A/PHYAD2 (out), 8 RXD2_A/CLK2MAC_DIS (out), 9 RXD3_A/ED_EN_A (out), 12 TX_CLK_A (out), 13 TX_EN_A (in), 14 TXD0_A (in), 15 TXD1_A (in), 16 TXD2_A (in), 17 TXD3_A/SNI_MODE_A (io), 18 PWRDOWN_INT_A (in), 19 LED_LINK_A/AN0_A (io), 20 LED_SPEED_A/AN1_A (io), 21 LED_ACT/LED_COL/AN_EN_A (io), 23 TPRDM_A (io), 24 TPRDP_A (io), 26 TPTDM_A (io), 27 TPTDP_A (io), 79 RX_CLK_A (out), 80 RX_DV_A/MII_MODE_A (out)
part B pins: 35 TPTDP_B (io), 36 TPTDM_B (io), 38 TPRDP_B (io), 39 TPRDM_B (io), 41 LED_ACT/LED_COL/AN_EN_B (io), 42 LED_SPEED_B/AN1_B (io), 43 LED_LINK_B/AN0_B (io), 44 PWRDOWN_INT_B (in), 45 TXD3_B/SNI_MODE_B (io), 46 TXD2_B (in), 47 TXD1_B (in), 48 TXD0_B (in), 49 TX_EN_B (in), 50 TX_CLK_B (out), 53 RXD3_B/ED_EN_B (out), 56 RXD2_B (out), 57 RXD1_B/PHYAD4 (out), 58 RXD0_B/PHYAD3 (out), 59 COL_B (out), 60 RX_ER_B/MDIX_EN_B (out), 61 CRS_B/CRS_DV_B/LED_CFG_B (out), 62 RX_DV_B/MII_MODE_B (out), 63 RX_CLK_B (out)
part C pins: 7 PFBIN1 (in), 28 PFBIN2 (in), 31 PFBOUT (out), 32 RBIAS (in), 34 PFBIN3 (in), 54 PFBIN4 (in), 66 MDIO (io), 67 MDC (in), 68 CLK2MAC (out), 69 X2 (out), 70 X1 (in), 71 RESET_N (in)
part D pins: 6 COREGND1 (power), 10 IOGND1 (power), 11 IOVDD1 (power), 22 ANAGND1 (power), 25 CDGND1 (power), 29 ANAGND2 (power), 30 ANA33VDD (power), 33 ANAGND3 (power), 37 CDGND2 (power), 40 ANAGND4 (power), 51 IOVDD2 (power), 52 IOGND2 (power), 55 COREGND2 (power), 64 IOGND3 (power), 65 IOVDD3 (power), 72 RESERVED (io), 73 RESERVED (io), 74 RESERVED (io), 75 RESERVED (io), 76 RESERVED (io), 77 IOGND4 (power), 78 IOVDD4 (power)

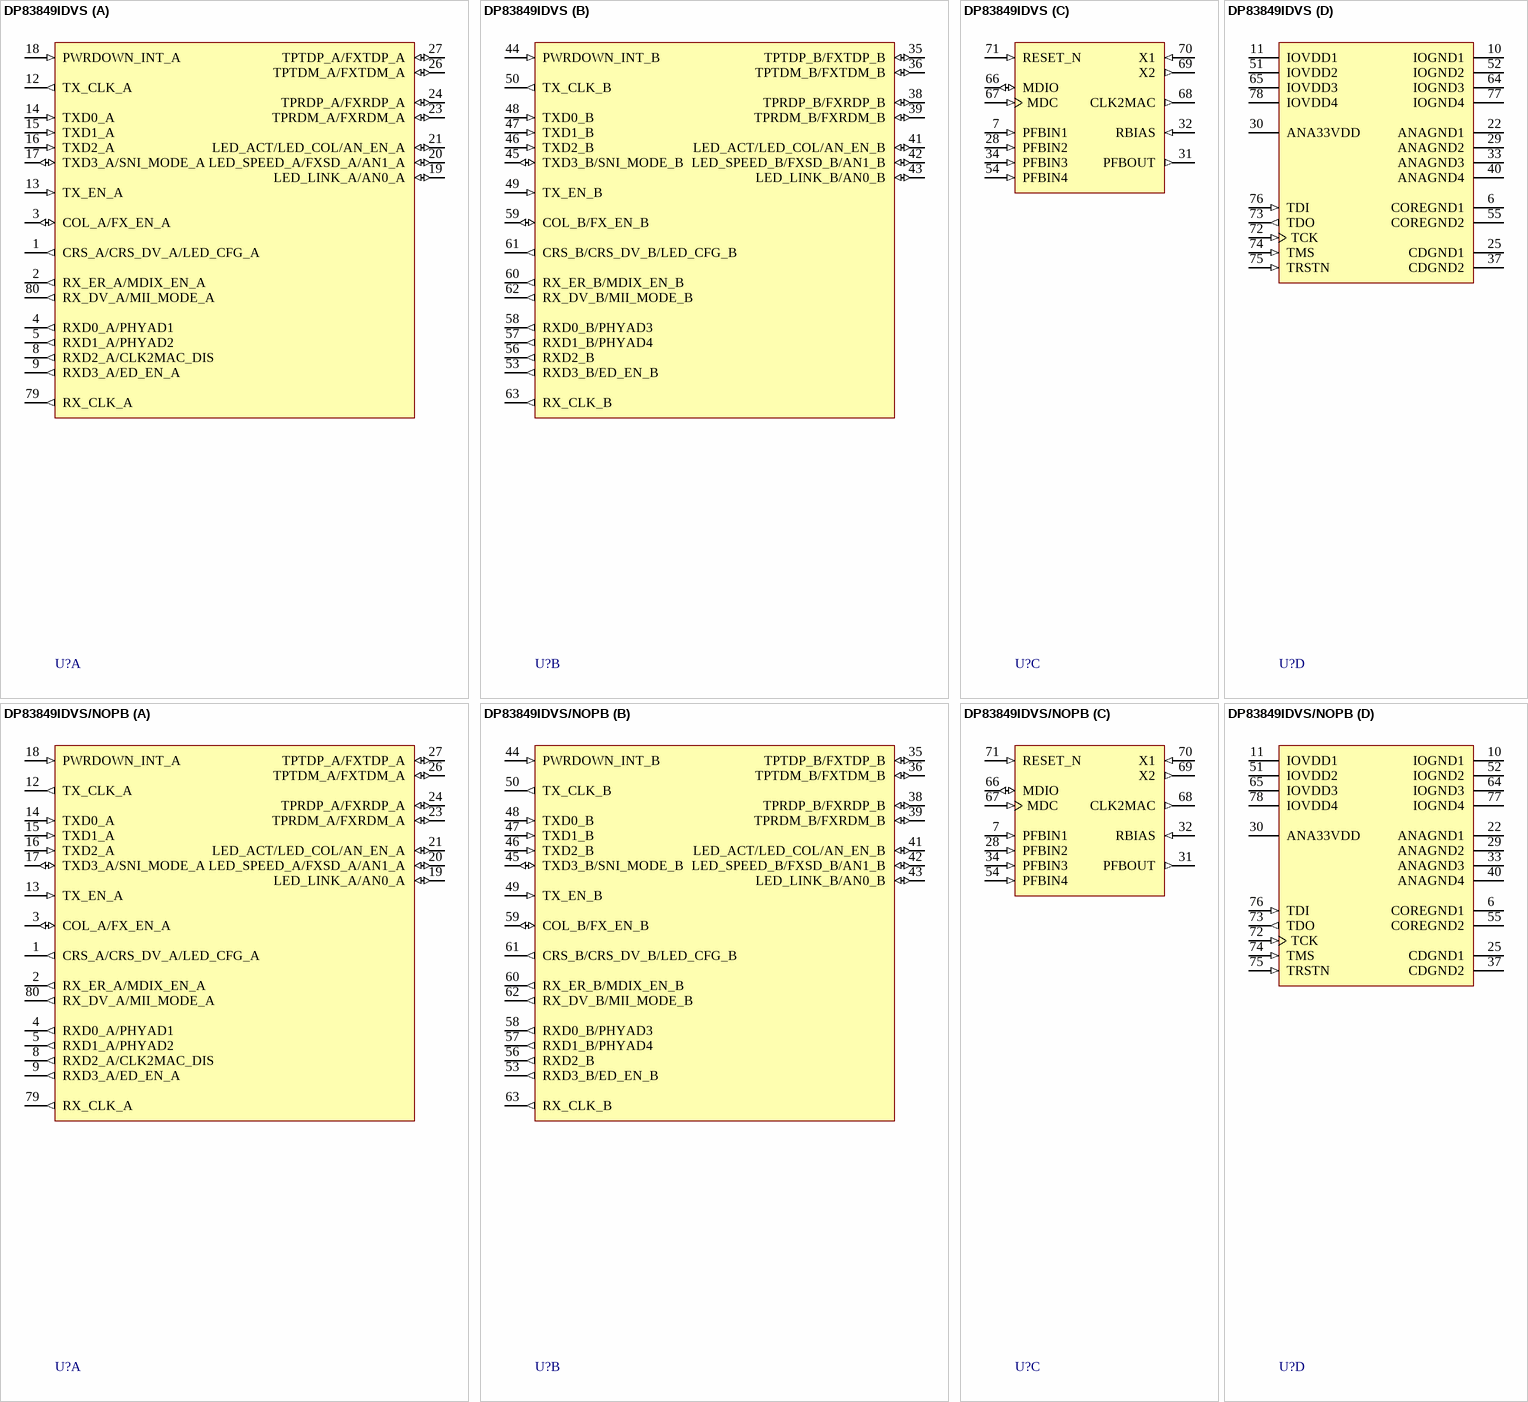
[diagram p10: symbols DP83849IDVS to DP83849IDVS/NOPB]

## DP83849IDVS
designator U?
PHYTER® DUAL Industrial Temperature with Fiber Support (FX), Dual Port 10/100 Mb/s Ethernet Physical Layer Transceiver, 80-pin TQFP; PartNumber: DP83849IDVS; Manufacturer: National Semiconductor; PackageTopMarking: NSUZXYTT*DP83849IDVS; PowerWise: N; CompType: Interface IC; High-Reliability: Y; DatasheetVersion: May-2008; PackageVersion: revB, Dec-1999; PackageReference: VHB80A; PackageDescription: LQFP, Jedec, Metric, 12 x 12 x 1.0mm, 80 Lead; RoHS: N; PinCount: 80; Code_JEDEC: MS-026-ADD; ComponentLink1Description: Manufacturer URL; ComponentLink1URL: http://www.national.com/; ComponentLink2Description: DP83849ID Datasheet; ComponentLink2URL: http://www.national.com/ds/DP/DP83849ID.pdf; ComponentLink3Description: DP83849ID Web Page; ComponentLink3URL: http://www.national.com/pf/DP/DP83849ID.html; ComponentLink4Description: VHB80A Package Page; ComponentLink4URL: http://www.national.com/packaging/folders/vhb80a.html
footprint VHB80A_N (Thin QFP, 80-Leads, Body 12x12mm, Pitch 0.5mm, IPC Medium Density)
footprint VHB80A_L (Thin QFP, 80-Leads, Body 12x12mm, Pitch 0.5mm, IPC High Density)
footprint VHB80A_M (Thin QFP, 80-Leads, Body 12x12mm, Pitch 0.5mm, IPC Low Density)
part A pins: 1 CRS_A/CRS_DV_A/LED_CFG_A (out), 2 RX_ER_A/MDIX_EN_A (out), 3 COL_A/FX_EN_A (io), 4 RXD0_A/PHYAD1 (out), 5 RXD1_A/PHYAD2 (out), 8 RXD2_A/CLK2MAC_DIS (out), 9 RXD3_A/ED_EN_A (out), 12 TX_CLK_A (out), 13 TX_EN_A (in), 14 TXD0_A (in), 15 TXD1_A (in), 16 TXD2_A (in), 17 TXD3_A/SNI_MODE_A (io), 18 PWRDOWN_INT_A (in), 19 LED_LINK_A/AN0_A (io), 20 LED_SPEED_A/FXSD_A/AN1_A (io), 21 LED_ACT/LED_COL/AN_EN_A (io), 23 TPRDM_A/FXRDM_A (io), 24 TPRDP_A/FXRDP_A (io), 26 TPTDM_A/FXTDM_A (io), 27 TPTDP_A/FXTDP_A (io), 79 RX_CLK_A (out), 80 RX_DV_A/MII_MODE_A (out)
part B pins: 35 TPTDP_B/FXTDP_B (io), 36 TPTDM_B/FXTDM_B (io), 38 TPRDP_B/FXRDP_B (io), 39 TPRDM_B/FXRDM_B (io), 41 LED_ACT/LED_COL/AN_EN_B (io), 42 LED_SPEED_B/FXSD_B/AN1_B (io), 43 LED_LINK_B/AN0_B (io), 44 PWRDOWN_INT_B (in), 45 TXD3_B/SNI_MODE_B (io), 46 TXD2_B (in), 47 TXD1_B (in), 48 TXD0_B (in), 49 TX_EN_B (in), 50 TX_CLK_B (out), 53 RXD3_B/ED_EN_B (out), 56 RXD2_B (out), 57 RXD1_B/PHYAD4 (out), 58 RXD0_B/PHYAD3 (out), 59 COL_B/FX_EN_B (io), 60 RX_ER_B/MDIX_EN_B (out), 61 CRS_B/CRS_DV_B/LED_CFG_B (out), 62 RX_DV_B/MII_MODE_B (out), 63 RX_CLK_B (out)
part C pins: 7 PFBIN1 (in), 28 PFBIN2 (in), 31 PFBOUT (out), 32 RBIAS (in), 34 PFBIN3 (in), 54 PFBIN4 (in), 66 MDIO (io), 67 MDC (in), 68 CLK2MAC (out), 69 X2 (out), 70 X1 (in), 71 RESET_N (in)
part D pins: 6 COREGND1 (power), 10 IOGND1 (power), 11 IOVDD1 (power), 22 ANAGND1 (power), 25 CDGND1 (power), 29 ANAGND2 (power), 30 ANA33VDD (power), 33 ANAGND3 (power), 37 CDGND2 (power), 40 ANAGND4 (power), 51 IOVDD2 (power), 52 IOGND2 (power), 55 COREGND2 (power), 64 IOGND3 (power), 65 IOVDD3 (power), 72 TCK (in), 73 TDO (out), 74 TMS (in), 75 TRSTN (in), 76 TDI (in), 77 IOGND4 (power), 78 IOVDD4 (power)

## DP83849IDVS/NOPB
designator U?
PHYTER® DUAL Industrial Temperature with Fiber Support (FX), Dual Port 10/100 Mb/s Ethernet Physical Layer Transceiver, 80-pin TQFP, Pb-Free; PartNumber: DP83849IDVS/NOPB; Manufacturer: National Semiconductor; PackageTopMarking: NSUZXYTTE#*DP83849IDVS; PowerWise: N; CompType: Interface IC; High-Reliability: Y; DatasheetVersion: May-2008; PackageVersion: revB, Dec-1999; PackageReference: VHB80A; PackageDescription: LQFP, Jedec, Metric, 12 x 12 x 1.0mm, 80 Lead; RoHS: Y; PinCount: 80; Code_JEDEC: MS-026-ADD; ComponentLink1Description: Manufacturer URL; ComponentLink1URL: http://www.national.com/; ComponentLink2Description: DP83849ID Datasheet; ComponentLink2URL: http://www.national.com/ds/DP/DP83849ID.pdf; ComponentLink3Description: DP83849ID Web Page; ComponentLink3URL: http://www.national.com/pf/DP/DP83849ID.html; ComponentLink4Description: VHB80A Package Page; ComponentLink4URL: http://www.national.com/packaging/folders/vhb80a.html
footprint VHB80A_N (Thin QFP, 80-Leads, Body 12x12mm, Pitch 0.5mm, IPC Medium Density)
footprint VHB80A_L (Thin QFP, 80-Leads, Body 12x12mm, Pitch 0.5mm, IPC High Density)
footprint VHB80A_M (Thin QFP, 80-Leads, Body 12x12mm, Pitch 0.5mm, IPC Low Density)
part A pins: 1 CRS_A/CRS_DV_A/LED_CFG_A (out), 2 RX_ER_A/MDIX_EN_A (out), 3 COL_A/FX_EN_A (io), 4 RXD0_A/PHYAD1 (out), 5 RXD1_A/PHYAD2 (out), 8 RXD2_A/CLK2MAC_DIS (out), 9 RXD3_A/ED_EN_A (out), 12 TX_CLK_A (out), 13 TX_EN_A (in), 14 TXD0_A (in), 15 TXD1_A (in), 16 TXD2_A (in), 17 TXD3_A/SNI_MODE_A (io), 18 PWRDOWN_INT_A (in), 19 LED_LINK_A/AN0_A (io), 20 LED_SPEED_A/FXSD_A/AN1_A (io), 21 LED_ACT/LED_COL/AN_EN_A (io), 23 TPRDM_A/FXRDM_A (io), 24 TPRDP_A/FXRDP_A (io), 26 TPTDM_A/FXTDM_A (io), 27 TPTDP_A/FXTDP_A (io), 79 RX_CLK_A (out), 80 RX_DV_A/MII_MODE_A (out)
part B pins: 35 TPTDP_B/FXTDP_B (io), 36 TPTDM_B/FXTDM_B (io), 38 TPRDP_B/FXRDP_B (io), 39 TPRDM_B/FXRDM_B (io), 41 LED_ACT/LED_COL/AN_EN_B (io), 42 LED_SPEED_B/FXSD_B/AN1_B (io), 43 LED_LINK_B/AN0_B (io), 44 PWRDOWN_INT_B (in), 45 TXD3_B/SNI_MODE_B (io), 46 TXD2_B (in), 47 TXD1_B (in), 48 TXD0_B (in), 49 TX_EN_B (in), 50 TX_CLK_B (out), 53 RXD3_B/ED_EN_B (out), 56 RXD2_B (out), 57 RXD1_B/PHYAD4 (out), 58 RXD0_B/PHYAD3 (out), 59 COL_B/FX_EN_B (io), 60 RX_ER_B/MDIX_EN_B (out), 61 CRS_B/CRS_DV_B/LED_CFG_B (out), 62 RX_DV_B/MII_MODE_B (out), 63 RX_CLK_B (out)
part C pins: 7 PFBIN1 (in), 28 PFBIN2 (in), 31 PFBOUT (out), 32 RBIAS (in), 34 PFBIN3 (in), 54 PFBIN4 (in), 66 MDIO (io), 67 MDC (in), 68 CLK2MAC (out), 69 X2 (out), 70 X1 (in), 71 RESET_N (in)
part D pins: 6 COREGND1 (power), 10 IOGND1 (power), 11 IOVDD1 (power), 22 ANAGND1 (power), 25 CDGND1 (power), 29 ANAGND2 (power), 30 ANA33VDD (power), 33 ANAGND3 (power), 37 CDGND2 (power), 40 ANAGND4 (power), 51 IOVDD2 (power), 52 IOGND2 (power), 55 COREGND2 (power), 64 IOGND3 (power), 65 IOVDD3 (power), 72 TCK (in), 73 TDO (out), 74 TMS (in), 75 TRSTN (in), 76 TDI (in), 77 IOGND4 (power), 78 IOVDD4 (power)

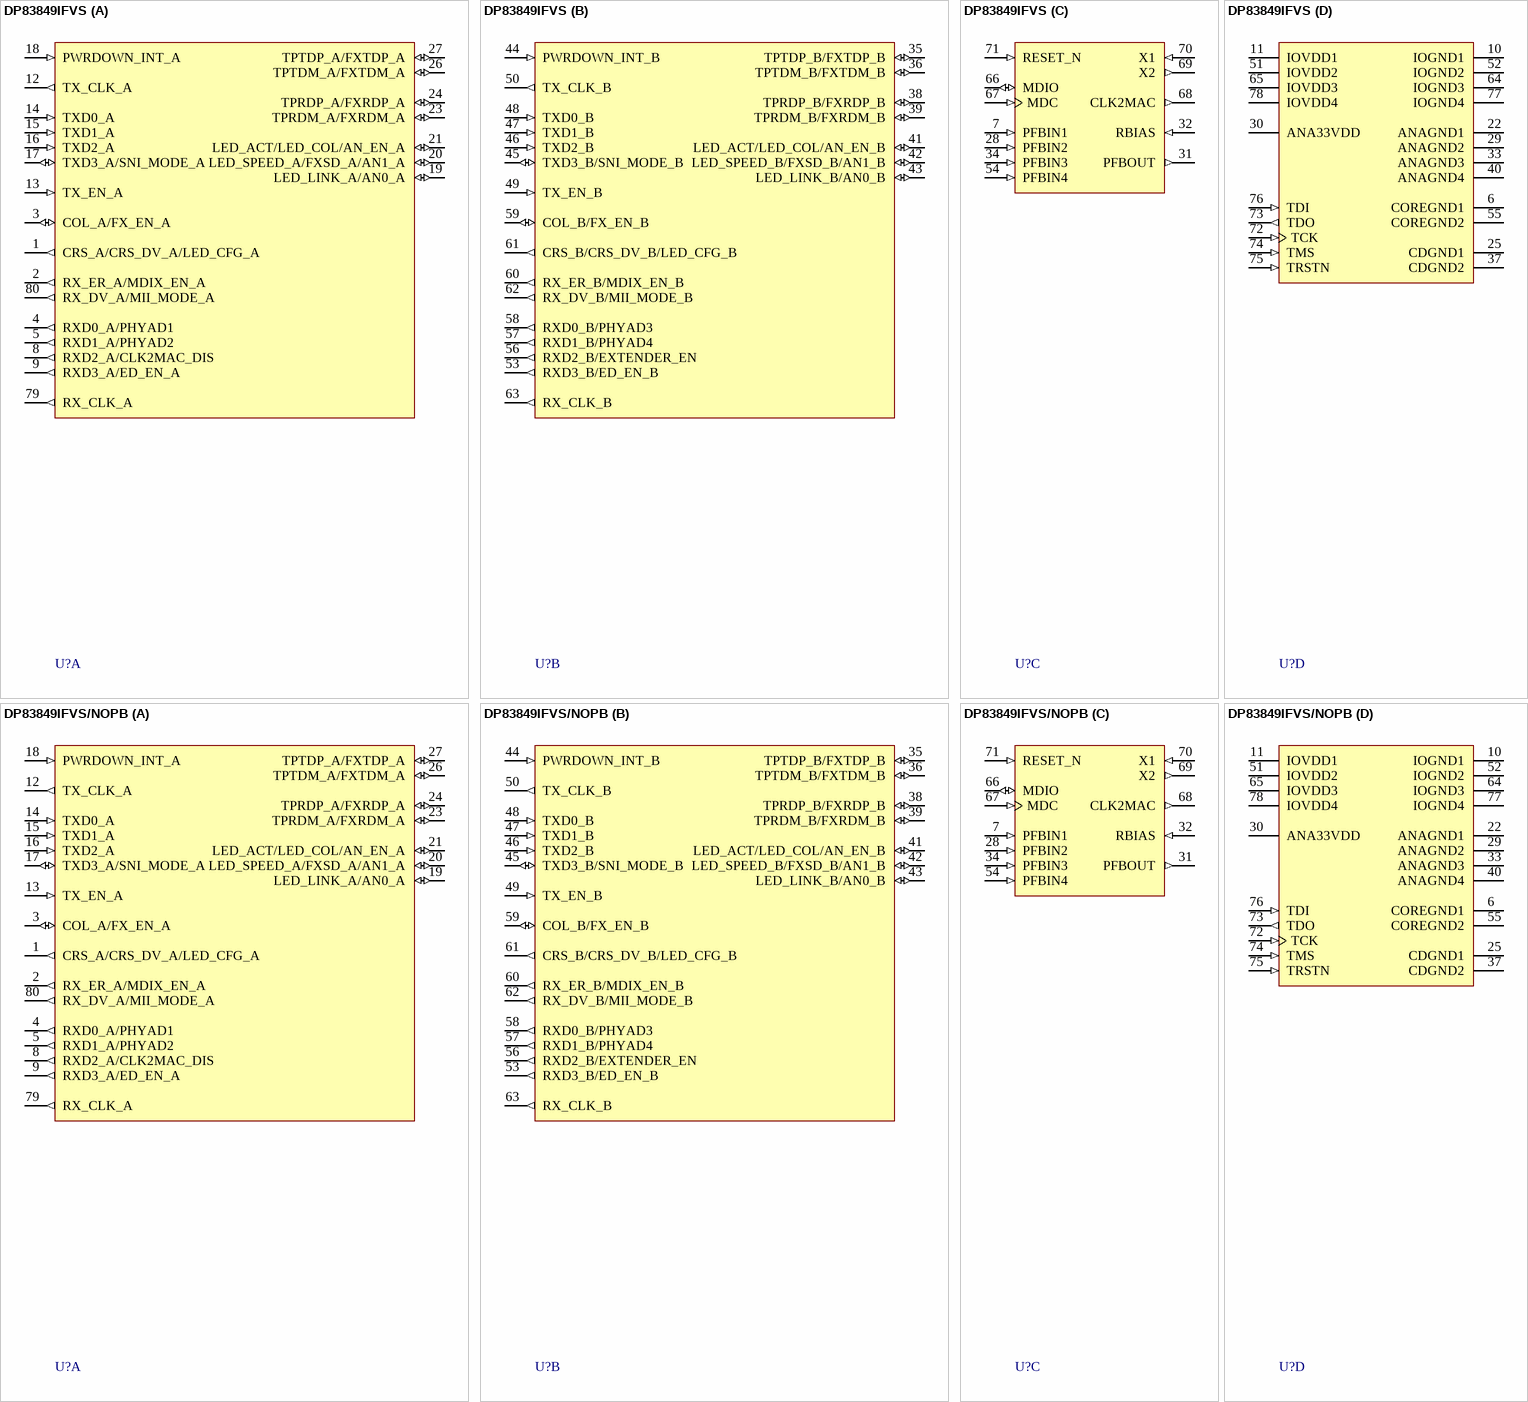
[diagram p11: symbols DP83849IFVS to DP83849IFVS/NOPB]

## DP83849IFVS
designator U?
PHYTER® DUAL Industrial Temperature with Fiber Support (FX) and Flexible Port Switching Dual Port 10/100 Mb/s Ethernet Physical Layer Transceiver, 80-pin TQFP; PartNumber: DP83849IFVS; Manufacturer: National Semiconductor; PackageTopMarking: NSUZXYTT*DP83849IFVS; PowerWise: N; CompType: Interface IC; High-Reliability: Y; DatasheetVersion: Apr-2009; PackageVersion: revB, Dec-1999; PackageReference: VHB80A; PackageDescription: LQFP, Jedec, Metric, 12 x 12 x 1.0mm, 80 Lead; RoHS: N; PinCount: 80; Code_JEDEC: MS-026-ADD; ComponentLink1Description: Manufacturer URL; ComponentLink1URL: http://www.national.com/; ComponentLink2Description: DP83849IF Datasheet; ComponentLink2URL: http://www.national.com/ds/DP/DP83849IF.pdf; ComponentLink3Description: DP83849IF Web Page; ComponentLink3URL: http://www.national.com/pf/DP/DP83849IF.html; ComponentLink4Description: VHB80A Package Page; ComponentLink4URL: http://www.national.com/packaging/folders/vhb80a.html
footprint VHB80A_N (Thin QFP, 80-Leads, Body 12x12mm, Pitch 0.5mm, IPC Medium Density)
footprint VHB80A_L (Thin QFP, 80-Leads, Body 12x12mm, Pitch 0.5mm, IPC High Density)
footprint VHB80A_M (Thin QFP, 80-Leads, Body 12x12mm, Pitch 0.5mm, IPC Low Density)
part A pins: 1 CRS_A/CRS_DV_A/LED_CFG_A (out), 2 RX_ER_A/MDIX_EN_A (out), 3 COL_A/FX_EN_A (io), 4 RXD0_A/PHYAD1 (out), 5 RXD1_A/PHYAD2 (out), 8 RXD2_A/CLK2MAC_DIS (out), 9 RXD3_A/ED_EN_A (out), 12 TX_CLK_A (out), 13 TX_EN_A (in), 14 TXD0_A (in), 15 TXD1_A (in), 16 TXD2_A (in), 17 TXD3_A/SNI_MODE_A (io), 18 PWRDOWN_INT_A (in), 19 LED_LINK_A/AN0_A (io), 20 LED_SPEED_A/FXSD_A/AN1_A (io), 21 LED_ACT/LED_COL/AN_EN_A (io), 23 TPRDM_A/FXRDM_A (io), 24 TPRDP_A/FXRDP_A (io), 26 TPTDM_A/FXTDM_A (io), 27 TPTDP_A/FXTDP_A (io), 79 RX_CLK_A (out), 80 RX_DV_A/MII_MODE_A (out)
part B pins: 35 TPTDP_B/FXTDP_B (io), 36 TPTDM_B/FXTDM_B (io), 38 TPRDP_B/FXRDP_B (io), 39 TPRDM_B/FXRDM_B (io), 41 LED_ACT/LED_COL/AN_EN_B (io), 42 LED_SPEED_B/FXSD_B/AN1_B (io), 43 LED_LINK_B/AN0_B (io), 44 PWRDOWN_INT_B (in), 45 TXD3_B/SNI_MODE_B (io), 46 TXD2_B (in), 47 TXD1_B (in), 48 TXD0_B (in), 49 TX_EN_B (in), 50 TX_CLK_B (out), 53 RXD3_B/ED_EN_B (out), 56 RXD2_B/EXTENDER_EN (out), 57 RXD1_B/PHYAD4 (out), 58 RXD0_B/PHYAD3 (out), 59 COL_B/FX_EN_B (io), 60 RX_ER_B/MDIX_EN_B (out), 61 CRS_B/CRS_DV_B/LED_CFG_B (out), 62 RX_DV_B/MII_MODE_B (out), 63 RX_CLK_B (out)
part C pins: 7 PFBIN1 (in), 28 PFBIN2 (in), 31 PFBOUT (out), 32 RBIAS (in), 34 PFBIN3 (in), 54 PFBIN4 (in), 66 MDIO (io), 67 MDC (in), 68 CLK2MAC (out), 69 X2 (out), 70 X1 (in), 71 RESET_N (in)
part D pins: 6 COREGND1 (power), 10 IOGND1 (power), 11 IOVDD1 (power), 22 ANAGND1 (power), 25 CDGND1 (power), 29 ANAGND2 (power), 30 ANA33VDD (power), 33 ANAGND3 (power), 37 CDGND2 (power), 40 ANAGND4 (power), 51 IOVDD2 (power), 52 IOGND2 (power), 55 COREGND2 (power), 64 IOGND3 (power), 65 IOVDD3 (power), 72 TCK (in), 73 TDO (out), 74 TMS (in), 75 TRSTN (in), 76 TDI (in), 77 IOGND4 (power), 78 IOVDD4 (power)

## DP83849IFVS/NOPB
designator U?
PHYTER® DUAL Industrial Temperature with Fiber Support (FX) and Flexible Port Switching Dual Port 10/100 Mb/s Ethernet Physical Layer Tranceiver, 80-pin TQFP, Pb-Free; PartNumber: DP83849IFVS/NOPB; Manufacturer: National Semiconductor; PackageTopMarking: NSUZXYTTE#*DP83849IFVS; PowerWise: N; CompType: Interface IC; High-Reliability: Y; DatasheetVersion: Apr-2009; PackageVersion: revB, Dec-1999; PackageReference: VHB80A; PackageDescription: LQFP, Jedec, Metric, 12 x 12 x 1.0mm, 80 Lead; RoHS: Y; PinCount: 80; Code_JEDEC: MS-026-ADD; ComponentLink1Description: Manufacturer URL; ComponentLink1URL: http://www.national.com/; ComponentLink2Description: DP83849IF Datasheet; ComponentLink2URL: http://www.national.com/ds/DP/DP83849IF.pdf; ComponentLink3Description: DP83849IF Web Page; ComponentLink3URL: http://www.national.com/pf/DP/DP83849IF.html; ComponentLink4Description: VHB80A Package Page; ComponentLink4URL: http://www.national.com/packaging/folders/vhb80a.html
footprint VHB80A_N (Thin QFP, 80-Leads, Body 12x12mm, Pitch 0.5mm, IPC Medium Density)
footprint VHB80A_L (Thin QFP, 80-Leads, Body 12x12mm, Pitch 0.5mm, IPC High Density)
footprint VHB80A_M (Thin QFP, 80-Leads, Body 12x12mm, Pitch 0.5mm, IPC Low Density)
part A pins: 1 CRS_A/CRS_DV_A/LED_CFG_A (out), 2 RX_ER_A/MDIX_EN_A (out), 3 COL_A/FX_EN_A (io), 4 RXD0_A/PHYAD1 (out), 5 RXD1_A/PHYAD2 (out), 8 RXD2_A/CLK2MAC_DIS (out), 9 RXD3_A/ED_EN_A (out), 12 TX_CLK_A (out), 13 TX_EN_A (in), 14 TXD0_A (in), 15 TXD1_A (in), 16 TXD2_A (in), 17 TXD3_A/SNI_MODE_A (io), 18 PWRDOWN_INT_A (in), 19 LED_LINK_A/AN0_A (io), 20 LED_SPEED_A/FXSD_A/AN1_A (io), 21 LED_ACT/LED_COL/AN_EN_A (io), 23 TPRDM_A/FXRDM_A (io), 24 TPRDP_A/FXRDP_A (io), 26 TPTDM_A/FXTDM_A (io), 27 TPTDP_A/FXTDP_A (io), 79 RX_CLK_A (out), 80 RX_DV_A/MII_MODE_A (out)
part B pins: 35 TPTDP_B/FXTDP_B (io), 36 TPTDM_B/FXTDM_B (io), 38 TPRDP_B/FXRDP_B (io), 39 TPRDM_B/FXRDM_B (io), 41 LED_ACT/LED_COL/AN_EN_B (io), 42 LED_SPEED_B/FXSD_B/AN1_B (io), 43 LED_LINK_B/AN0_B (io), 44 PWRDOWN_INT_B (in), 45 TXD3_B/SNI_MODE_B (io), 46 TXD2_B (in), 47 TXD1_B (in), 48 TXD0_B (in), 49 TX_EN_B (in), 50 TX_CLK_B (out), 53 RXD3_B/ED_EN_B (out), 56 RXD2_B/EXTENDER_EN (out), 57 RXD1_B/PHYAD4 (out), 58 RXD0_B/PHYAD3 (out), 59 COL_B/FX_EN_B (io), 60 RX_ER_B/MDIX_EN_B (out), 61 CRS_B/CRS_DV_B/LED_CFG_B (out), 62 RX_DV_B/MII_MODE_B (out), 63 RX_CLK_B (out)
part C pins: 7 PFBIN1 (in), 28 PFBIN2 (in), 31 PFBOUT (out), 32 RBIAS (in), 34 PFBIN3 (in), 54 PFBIN4 (in), 66 MDIO (io), 67 MDC (in), 68 CLK2MAC (out), 69 X2 (out), 70 X1 (in), 71 RESET_N (in)
part D pins: 6 COREGND1 (power), 10 IOGND1 (power), 11 IOVDD1 (power), 22 ANAGND1 (power), 25 CDGND1 (power), 29 ANAGND2 (power), 30 ANA33VDD (power), 33 ANAGND3 (power), 37 CDGND2 (power), 40 ANAGND4 (power), 51 IOVDD2 (power), 52 IOGND2 (power), 55 COREGND2 (power), 64 IOGND3 (power), 65 IOVDD3 (power), 72 TCK (in), 73 TDO (out), 74 TMS (in), 75 TRSTN (in), 76 TDI (in), 77 IOGND4 (power), 78 IOVDD4 (power)

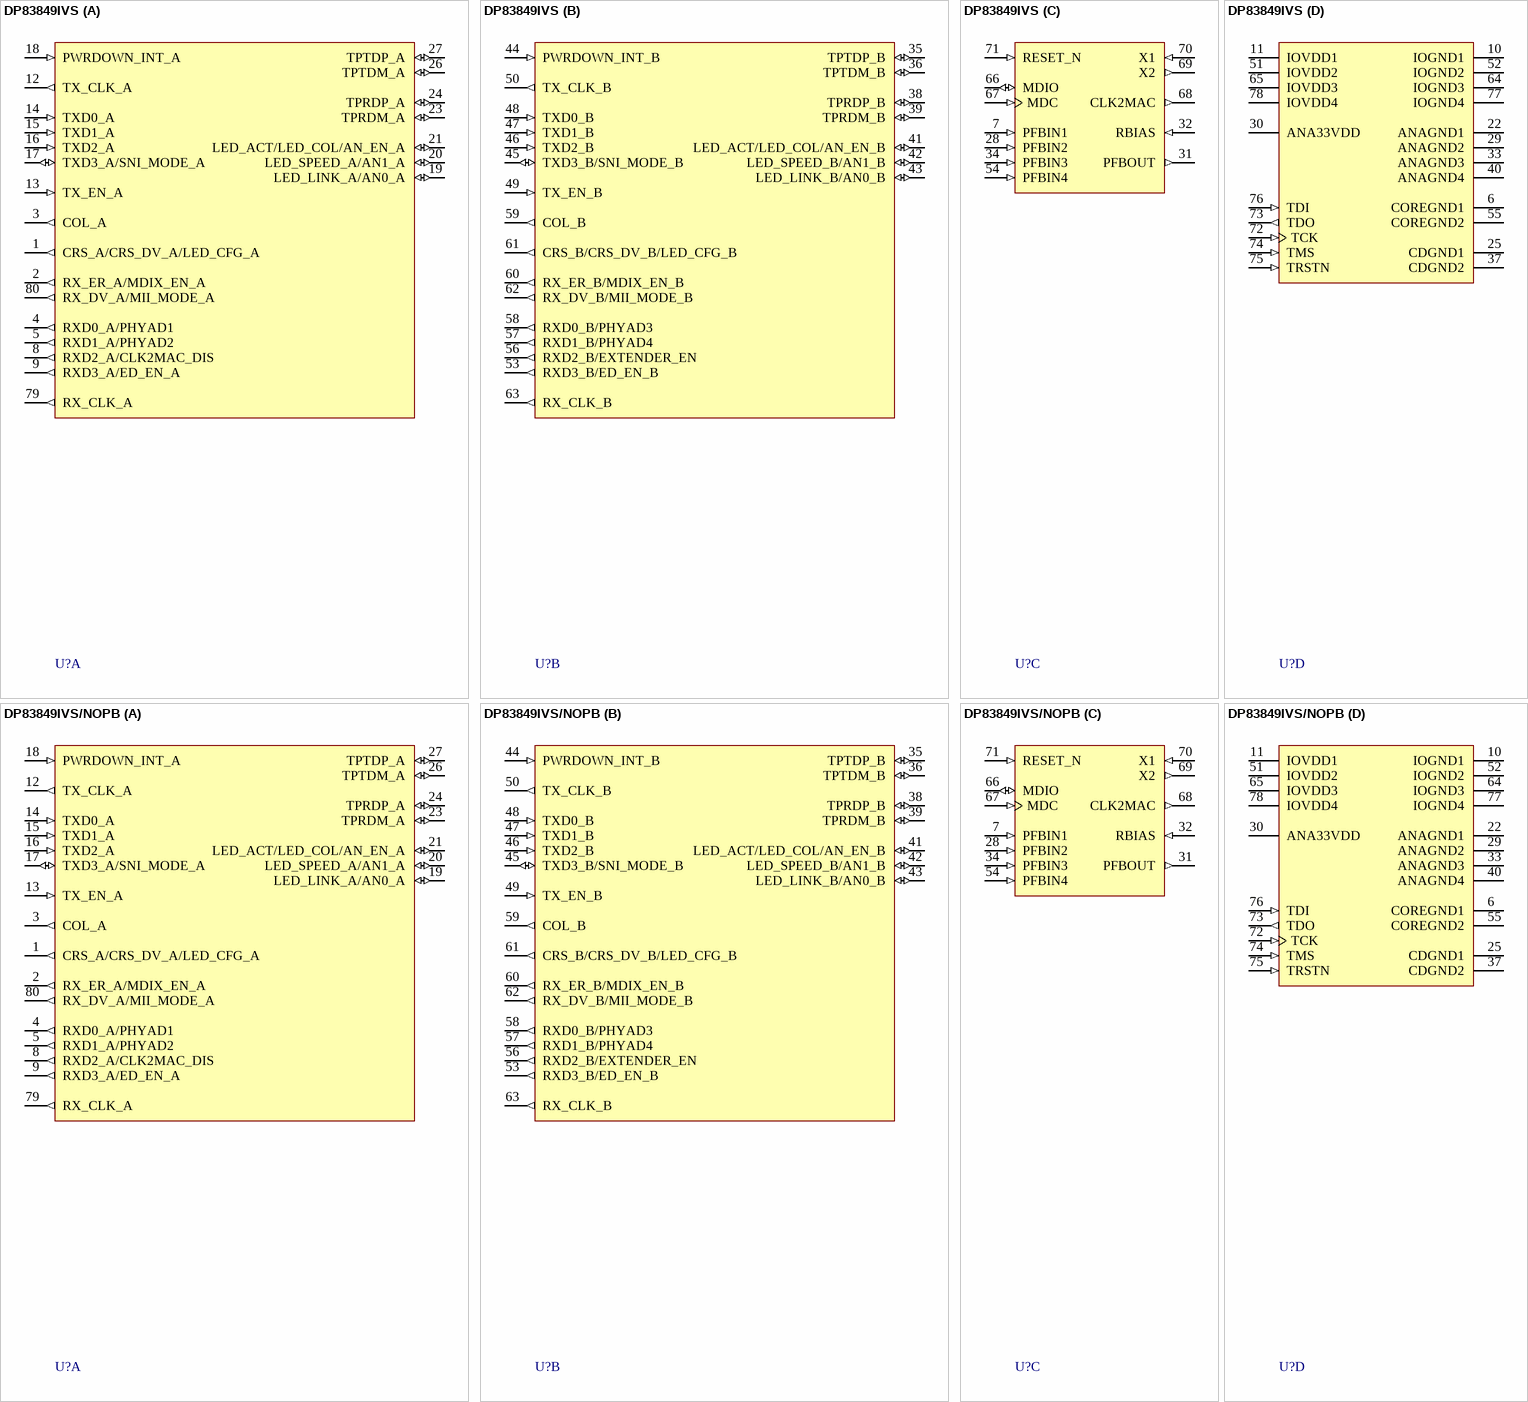
[diagram p12: symbols DP83849IVS to DP83849IVS/NOPB]

## DP83849IVS
designator U?
PHYTER® DUAL Industrial Temperature with Flexible Port Switching Dual Port 10/100 Mb/s Ethernet Physical Layer Transceiver, 80-pin TQFP; PartNumber: DP83849IVS; Manufacturer: National Semiconductor; PackageTopMarking: NSUZXYTT*DP83849IVS; PowerWise: N; CompType: Interface IC; High-Reliability: Y; DatasheetVersion: May-2008; PackageVersion: revB, Dec-1999; PackageReference: VHB80A; PackageDescription: LQFP, Jedec, Metric, 12 x 12 x 1.0mm, 80 Lead; RoHS: Y; PinCount: 80; Code_JEDEC: MS-026-ADD; ComponentLink1Description: Manufacturer URL; ComponentLink1URL: http://www.national.com/; ComponentLink2Description: DP83849I Datasheet; ComponentLink2URL: http://www.national.com/ds/DP/DP83849I.pdf; ComponentLink3Description: DP83849I Web Page; ComponentLink3URL: http://www.national.com/pf/DP/DP83849I.html; ComponentLink4Description: VHB80A Package Page; ComponentLink4URL: http://www.national.com/packaging/folders/vhb80a.html
footprint VHB80A_N (Thin QFP, 80-Leads, Body 12x12mm, Pitch 0.5mm, IPC Medium Density)
footprint VHB80A_L (Thin QFP, 80-Leads, Body 12x12mm, Pitch 0.5mm, IPC High Density)
footprint VHB80A_M (Thin QFP, 80-Leads, Body 12x12mm, Pitch 0.5mm, IPC Low Density)
part A pins: 1 CRS_A/CRS_DV_A/LED_CFG_A (out), 2 RX_ER_A/MDIX_EN_A (out), 3 COL_A (out), 4 RXD0_A/PHYAD1 (out), 5 RXD1_A/PHYAD2 (out), 8 RXD2_A/CLK2MAC_DIS (out), 9 RXD3_A/ED_EN_A (out), 12 TX_CLK_A (out), 13 TX_EN_A (in), 14 TXD0_A (in), 15 TXD1_A (in), 16 TXD2_A (in), 17 TXD3_A/SNI_MODE_A (io), 18 PWRDOWN_INT_A (in), 19 LED_LINK_A/AN0_A (io), 20 LED_SPEED_A/AN1_A (io), 21 LED_ACT/LED_COL/AN_EN_A (io), 23 TPRDM_A (io), 24 TPRDP_A (io), 26 TPTDM_A (io), 27 TPTDP_A (io), 79 RX_CLK_A (out), 80 RX_DV_A/MII_MODE_A (out)
part B pins: 35 TPTDP_B (io), 36 TPTDM_B (io), 38 TPRDP_B (io), 39 TPRDM_B (io), 41 LED_ACT/LED_COL/AN_EN_B (io), 42 LED_SPEED_B/AN1_B (io), 43 LED_LINK_B/AN0_B (io), 44 PWRDOWN_INT_B (in), 45 TXD3_B/SNI_MODE_B (io), 46 TXD2_B (in), 47 TXD1_B (in), 48 TXD0_B (in), 49 TX_EN_B (in), 50 TX_CLK_B (out), 53 RXD3_B/ED_EN_B (out), 56 RXD2_B/EXTENDER_EN (out), 57 RXD1_B/PHYAD4 (out), 58 RXD0_B/PHYAD3 (out), 59 COL_B (out), 60 RX_ER_B/MDIX_EN_B (out), 61 CRS_B/CRS_DV_B/LED_CFG_B (out), 62 RX_DV_B/MII_MODE_B (out), 63 RX_CLK_B (out)
part C pins: 7 PFBIN1 (in), 28 PFBIN2 (in), 31 PFBOUT (out), 32 RBIAS (in), 34 PFBIN3 (in), 54 PFBIN4 (in), 66 MDIO (io), 67 MDC (in), 68 CLK2MAC (out), 69 X2 (out), 70 X1 (in), 71 RESET_N (in)
part D pins: 6 COREGND1 (power), 10 IOGND1 (power), 11 IOVDD1 (power), 22 ANAGND1 (power), 25 CDGND1 (power), 29 ANAGND2 (power), 30 ANA33VDD (power), 33 ANAGND3 (power), 37 CDGND2 (power), 40 ANAGND4 (power), 51 IOVDD2 (power), 52 IOGND2 (power), 55 COREGND2 (power), 64 IOGND3 (power), 65 IOVDD3 (power), 72 TCK (in), 73 TDO (out), 74 TMS (in), 75 TRSTN (in), 76 TDI (in), 77 IOGND4 (power), 78 IOVDD4 (power)

## DP83849IVS/NOPB
designator U?
PHYTER® DUAL Industrial Temperature with Flexible Port Switching Dual Port 10/100 Mb/s Ethernet Physical Layer Transceiver, 80-pin TQFP, Pb-Free; PartNumber: DP83849IVS/NOPB; Manufacturer: National Semiconductor; PackageTopMarking: NSUZXYTTE#*DP83849IVS; PowerWise: N; CompType: Interface IC; High-Reliability: Y; DatasheetVersion: May-2008; PackageVersion: revB, Dec-1999; PackageReference: VHB80A; PackageDescription: LQFP, Jedec, Metric, 12 x 12 x 1.0mm, 80 Lead; RoHS: Y; PinCount: 80; Code_JEDEC: MS-026-ADD; ComponentLink1Description: Manufacturer URL; ComponentLink1URL: http://www.national.com/; ComponentLink2Description: DP83849I Datasheet; ComponentLink2URL: http://www.national.com/ds/DP/DP83849I.pdf; ComponentLink3Description: DP83849I Web Page; ComponentLink3URL: http://www.national.com/pf/DP/DP83849I.html; ComponentLink4Description: VHB80A Package Page; ComponentLink4URL: http://www.national.com/packaging/folders/vhb80a.html
footprint VHB80A_N (Thin QFP, 80-Leads, Body 12x12mm, Pitch 0.5mm, IPC Medium Density)
footprint VHB80A_L (Thin QFP, 80-Leads, Body 12x12mm, Pitch 0.5mm, IPC High Density)
footprint VHB80A_M (Thin QFP, 80-Leads, Body 12x12mm, Pitch 0.5mm, IPC Low Density)
part A pins: 1 CRS_A/CRS_DV_A/LED_CFG_A (out), 2 RX_ER_A/MDIX_EN_A (out), 3 COL_A (out), 4 RXD0_A/PHYAD1 (out), 5 RXD1_A/PHYAD2 (out), 8 RXD2_A/CLK2MAC_DIS (out), 9 RXD3_A/ED_EN_A (out), 12 TX_CLK_A (out), 13 TX_EN_A (in), 14 TXD0_A (in), 15 TXD1_A (in), 16 TXD2_A (in), 17 TXD3_A/SNI_MODE_A (io), 18 PWRDOWN_INT_A (in), 19 LED_LINK_A/AN0_A (io), 20 LED_SPEED_A/AN1_A (io), 21 LED_ACT/LED_COL/AN_EN_A (io), 23 TPRDM_A (io), 24 TPRDP_A (io), 26 TPTDM_A (io), 27 TPTDP_A (io), 79 RX_CLK_A (out), 80 RX_DV_A/MII_MODE_A (out)
part B pins: 35 TPTDP_B (io), 36 TPTDM_B (io), 38 TPRDP_B (io), 39 TPRDM_B (io), 41 LED_ACT/LED_COL/AN_EN_B (io), 42 LED_SPEED_B/AN1_B (io), 43 LED_LINK_B/AN0_B (io), 44 PWRDOWN_INT_B (in), 45 TXD3_B/SNI_MODE_B (io), 46 TXD2_B (in), 47 TXD1_B (in), 48 TXD0_B (in), 49 TX_EN_B (in), 50 TX_CLK_B (out), 53 RXD3_B/ED_EN_B (out), 56 RXD2_B/EXTENDER_EN (out), 57 RXD1_B/PHYAD4 (out), 58 RXD0_B/PHYAD3 (out), 59 COL_B (out), 60 RX_ER_B/MDIX_EN_B (out), 61 CRS_B/CRS_DV_B/LED_CFG_B (out), 62 RX_DV_B/MII_MODE_B (out), 63 RX_CLK_B (out)
part C pins: 7 PFBIN1 (in), 28 PFBIN2 (in), 31 PFBOUT (out), 32 RBIAS (in), 34 PFBIN3 (in), 54 PFBIN4 (in), 66 MDIO (io), 67 MDC (in), 68 CLK2MAC (out), 69 X2 (out), 70 X1 (in), 71 RESET_N (in)
part D pins: 6 COREGND1 (power), 10 IOGND1 (power), 11 IOVDD1 (power), 22 ANAGND1 (power), 25 CDGND1 (power), 29 ANAGND2 (power), 30 ANA33VDD (power), 33 ANAGND3 (power), 37 CDGND2 (power), 40 ANAGND4 (power), 51 IOVDD2 (power), 52 IOGND2 (power), 55 COREGND2 (power), 64 IOGND3 (power), 65 IOVDD3 (power), 72 TCK (in), 73 TDO (out), 74 TMS (in), 75 TRSTN (in), 76 TDI (in), 77 IOGND4 (power), 78 IOVDD4 (power)

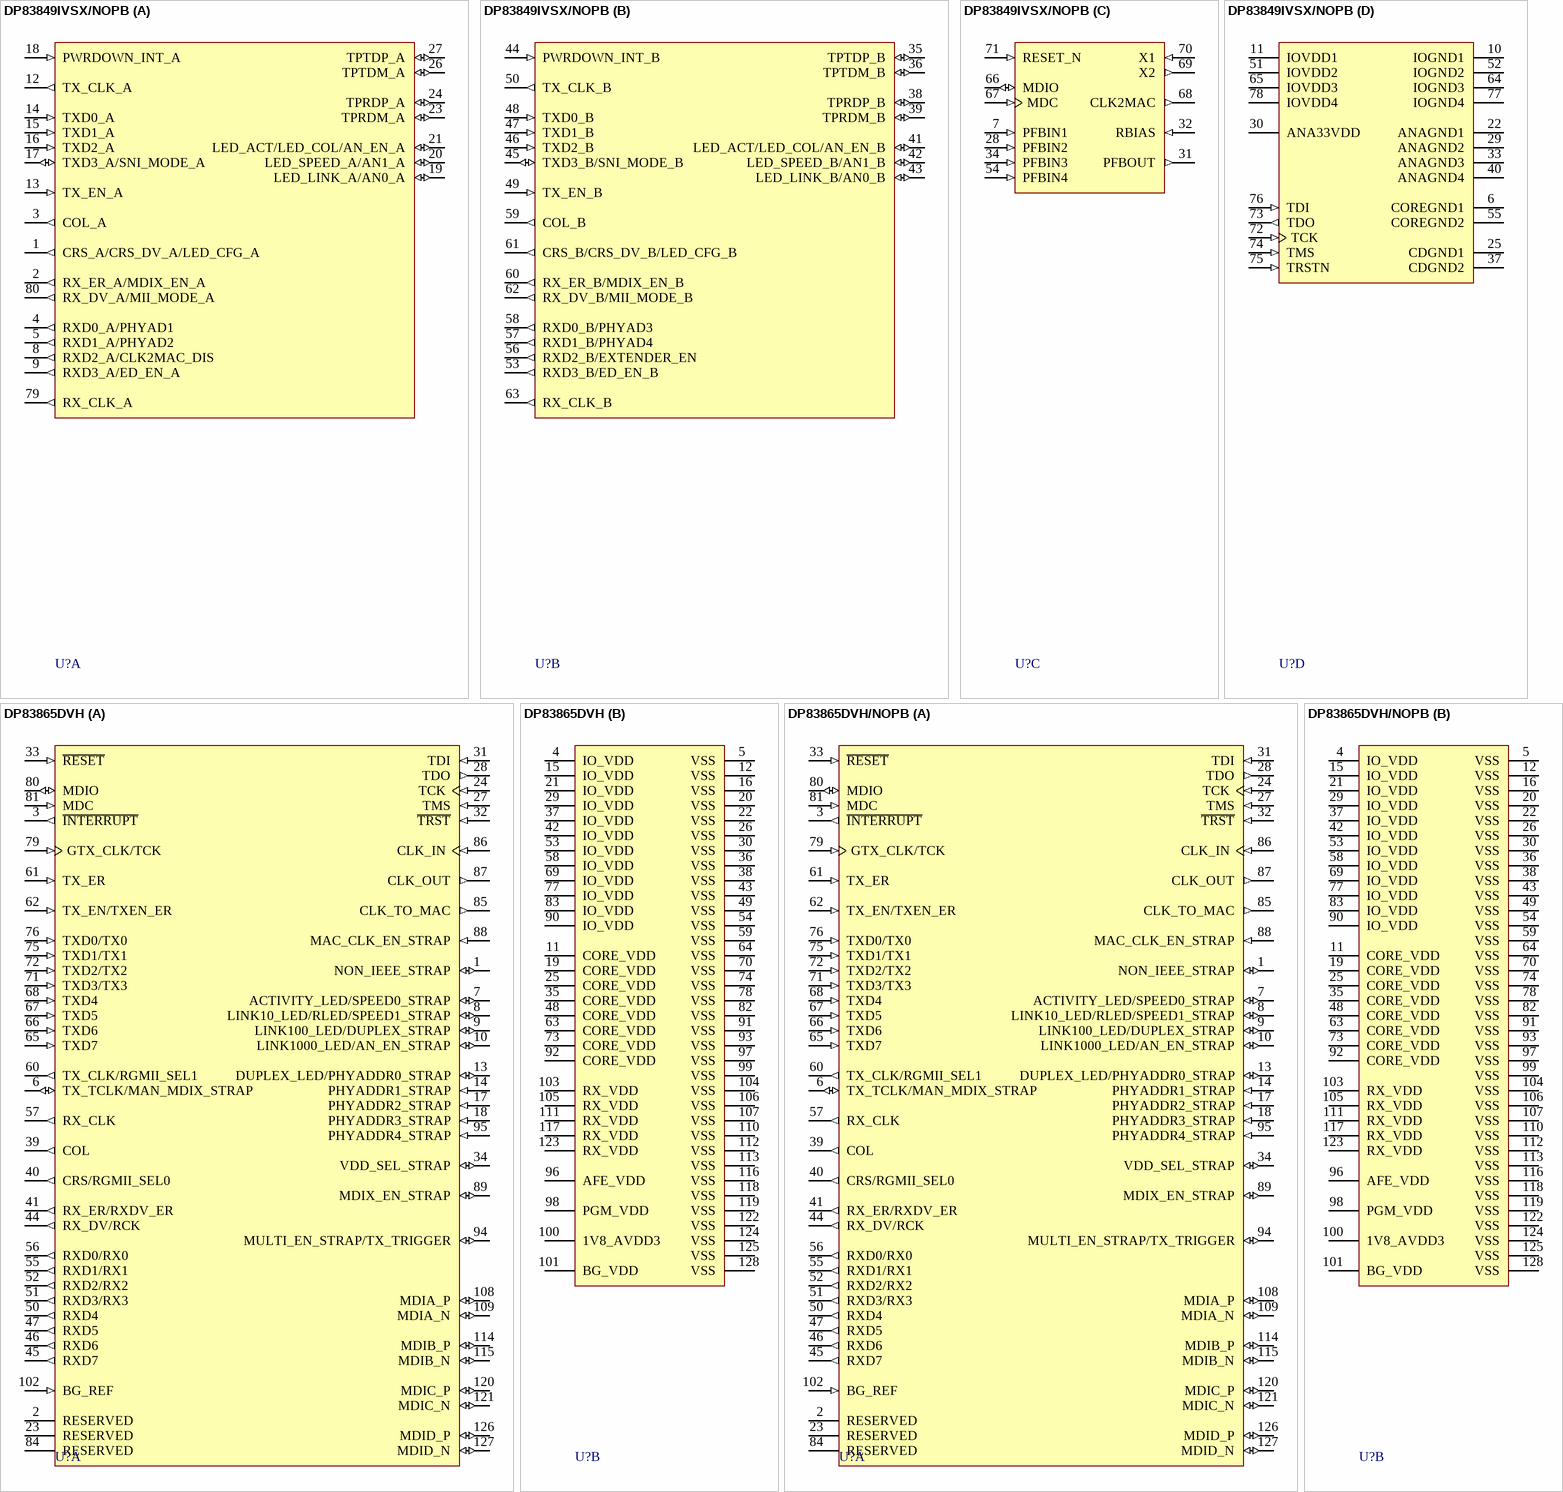
[diagram p13: symbols DP83849IVSX/NOPB to DP83865DVH/NOPB]

## DP83849IVSX/NOPB
designator U?
PHYTER® DUAL Industrial Temperature with Flexible Port Switching Dual Port 10/100 Mb/s Ethernet Physical Layer Transceiver, 80-pin TQFP, Pb-Free, 1000 Reel; PartNumber: DP83849IVSX/NOPB; Manufacturer: National Semiconductor; PackageTopMarking: NSUZXYTTE#*DP83849IVS; PowerWise: N; CompType: Interface IC; High-Reliability: Y; DatasheetVersion: May-2008; PackageVersion: revB, Dec-1999; PackageReference: VHB80A; PackageDescription: LQFP, Jedec, Metric, 12 x 12 x 1.0mm, 80 Lead; RoHS: Y; PinCount: 80; Code_JEDEC: MS-026-ADD; ComponentLink1Description: Manufacturer URL; ComponentLink1URL: http://www.national.com/; ComponentLink2Description: DP83849I Datasheet; ComponentLink2URL: http://www.national.com/ds/DP/DP83849I.pdf; ComponentLink3Description: DP83849I Web Page; ComponentLink3URL: http://www.national.com/pf/DP/DP83849I.html; ComponentLink4Description: VHB80A Package Page; ComponentLink4URL: http://www.national.com/packaging/folders/vhb80a.html
footprint VHB80A_N (Thin QFP, 80-Leads, Body 12x12mm, Pitch 0.5mm, IPC Medium Density)
footprint VHB80A_L (Thin QFP, 80-Leads, Body 12x12mm, Pitch 0.5mm, IPC High Density)
footprint VHB80A_M (Thin QFP, 80-Leads, Body 12x12mm, Pitch 0.5mm, IPC Low Density)
part A pins: 1 CRS_A/CRS_DV_A/LED_CFG_A (out), 2 RX_ER_A/MDIX_EN_A (out), 3 COL_A (out), 4 RXD0_A/PHYAD1 (out), 5 RXD1_A/PHYAD2 (out), 8 RXD2_A/CLK2MAC_DIS (out), 9 RXD3_A/ED_EN_A (out), 12 TX_CLK_A (out), 13 TX_EN_A (in), 14 TXD0_A (in), 15 TXD1_A (in), 16 TXD2_A (in), 17 TXD3_A/SNI_MODE_A (io), 18 PWRDOWN_INT_A (in), 19 LED_LINK_A/AN0_A (io), 20 LED_SPEED_A/AN1_A (io), 21 LED_ACT/LED_COL/AN_EN_A (io), 23 TPRDM_A (io), 24 TPRDP_A (io), 26 TPTDM_A (io), 27 TPTDP_A (io), 79 RX_CLK_A (out), 80 RX_DV_A/MII_MODE_A (out)
part B pins: 35 TPTDP_B (io), 36 TPTDM_B (io), 38 TPRDP_B (io), 39 TPRDM_B (io), 41 LED_ACT/LED_COL/AN_EN_B (io), 42 LED_SPEED_B/AN1_B (io), 43 LED_LINK_B/AN0_B (io), 44 PWRDOWN_INT_B (in), 45 TXD3_B/SNI_MODE_B (io), 46 TXD2_B (in), 47 TXD1_B (in), 48 TXD0_B (in), 49 TX_EN_B (in), 50 TX_CLK_B (out), 53 RXD3_B/ED_EN_B (out), 56 RXD2_B/EXTENDER_EN (out), 57 RXD1_B/PHYAD4 (out), 58 RXD0_B/PHYAD3 (out), 59 COL_B (out), 60 RX_ER_B/MDIX_EN_B (out), 61 CRS_B/CRS_DV_B/LED_CFG_B (out), 62 RX_DV_B/MII_MODE_B (out), 63 RX_CLK_B (out)
part C pins: 7 PFBIN1 (in), 28 PFBIN2 (in), 31 PFBOUT (out), 32 RBIAS (in), 34 PFBIN3 (in), 54 PFBIN4 (in), 66 MDIO (io), 67 MDC (in), 68 CLK2MAC (out), 69 X2 (out), 70 X1 (in), 71 RESET_N (in)
part D pins: 6 COREGND1 (power), 10 IOGND1 (power), 11 IOVDD1 (power), 22 ANAGND1 (power), 25 CDGND1 (power), 29 ANAGND2 (power), 30 ANA33VDD (power), 33 ANAGND3 (power), 37 CDGND2 (power), 40 ANAGND4 (power), 51 IOVDD2 (power), 52 IOGND2 (power), 55 COREGND2 (power), 64 IOGND3 (power), 65 IOVDD3 (power), 72 TCK (in), 73 TDO (out), 74 TMS (in), 75 TRSTN (in), 76 TDI (in), 77 IOGND4 (power), 78 IOVDD4 (power)